# Altium schematic symbol library mfmc_components.SchLib: 184 symbols (part 1 of 2)
Pins are listed as number, name and electrical type; pins without a type are passive.

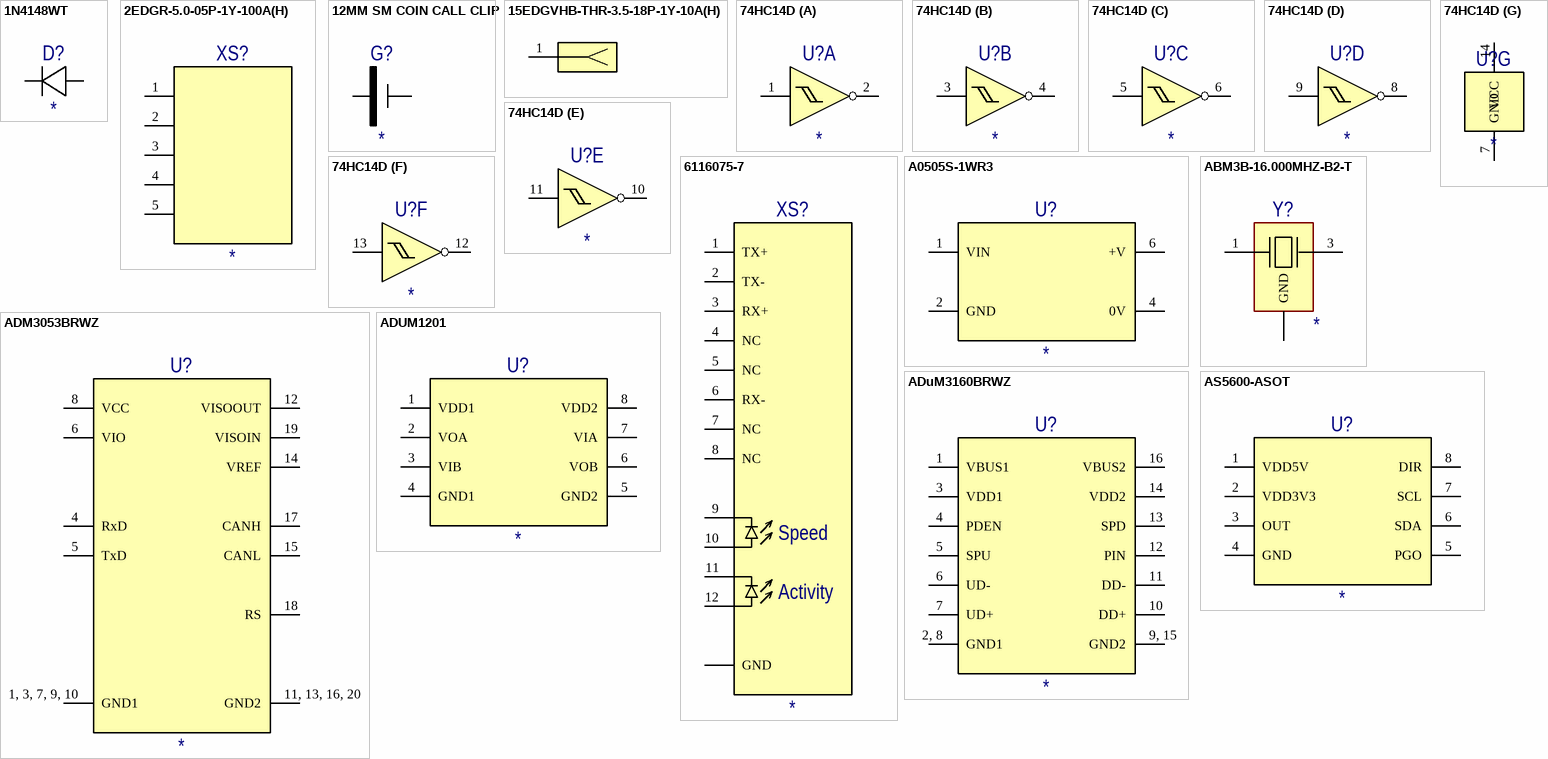
[diagram p0: symbols 1N4148WT to AS5600-ASOT]

## 1N4148WT
designator D?
Silicon Epitaxial Planar Switching Diode; Manufacturer: GUANGDONG SHIKUES MICRO INDUSTRIAL CO., LTD
footprint SOD-523F (Small Outline Diode FLAT NARROW LEADS)
pins: 1, 2

## 2EDGR-5.0-05P-1Y-100A(H)
designator XS?
Reverse mount chip LED; Manufacturer: LITE-ON ELECTRONICS, INC.
footprint 2EDGR-5.0-05P-1Y-100AH (Pluggable Terminal Blocks PCB Socket)
pins: 1, 2, 3, 4, 5

## 12MM SM COIN CALL CLIP
designator G?
footprint 12MM SM COIN CALL CLIP
pins: 1, 2

## 15EDGVHB-THR-3.5-18P-1Y-10A(H)
designator XS?  (value not drawn)
Pluggable Terminal Blocksnominal current 8A. Rated voltage(Ⅱ/2): 250V, pitch: 3.5mm, Color: black, Contact surface: Tin; Manufacturer: NINGBO DEGSON ELECTRICAL CO.,LTD.
footprint 15EDGVHB-THR-3.5-18P (2-rows PCB Socket 3.5mm pitch 8A)
pins: 1
1 alternate drawing of the same symbol

## 74HC14D
designator U?
The LM321A/358A/324A series amplifiers are newest high supply voltage amplifiers with low offset, low power and stable frequency response. They incorporate 3PEAK’s proprietary and patented design techniques to achieve very good AC performance with 0.9MHz bandwidth, 0.5V/μs slew rate and maximum 3mV offset while drawing only 100μA of quiescent current per amplifier. The input common-mode voltage range extends to V–, and the outputs swing rail-to-rail. The LM321A/358A/324A family can be used as plug-in / replacements for many commercially available op-amps to reduce power and improve input/output range and performance. The combination of features makes the LM321A/358A/324A ideal choices for power module, industrial control, motor control and audio application.; Manufacturer: Toshiba Corporation
footprint 14-SOIC-E3900-D8700-A1750-H6000-B400-e1270
part A pins: 1 1A, 2 1Y
part B pins: 3 2A, 4 2Y
part C pins: 5 3A, 6 3Y
part D pins: 8 4Y, 9 4A
part E pins: 10 5Y, 11 5A
part F pins: 12 6Y, 13 6A
part G pins: 7 GND, 14 VCC

## 6116075-7
designator XS?
Modular Jack, Right Angle, Low Profile, Inverted, Shielded, No Panel Grounding Tabs, 8/8
footprint 6116075-7 (RJ45 Connectors, RJ45, Single Port, 1 x 1, RJ Type Jacks & Plugs, Standard Connector Contact Density, Jack, Shielded, Cat 5, Inverted - Latch Up); pin to pad SH1, SH2, PH1, PH2>SH1+SH2+PH1+PH2
pins: 1 TX+, 2 TX-, 3 RX+, 4 NC, 5 NC, 6 RX-, 7 NC, 8 NC, 9, 10, 11, 12, SH1, SH2, PH1, PH2 GND
text: Speed; Activity

## A0505S-1WR3
designator U?
footprint MORNSUN-A05_S-1WR3
pins: 1 VIN, 2 GND, 4 0V, 6 +V

## ABM3B-16.000MHZ-B2-T
designator Y?
16 MHz Â±20ppm Crystal 18pF 50 Ohms 4-SMD, No Lead
footprint XTAL_ABM3B-16.000MHZ-B2-T; pin to pad 2>2+4
footprint F5032A; pin to pad 2,4>2+4
pins: 1, 2,4 GND (power), 3

## ADM3053BRWZ
designator U?
footprint 20-SOIC_W-E7600-D13000-A2650-H10650-B500-e1270 (SOIC, 20-Leads, Body 12,80x7,50mm, Pitch 1,27mm, IPC Medium Density); pin to pad 1,3,7,9,10>1+3+7+9+10 11,13,16,20>11+13+16+20
pins: 1, 3, 7, 9, 10 GND1, 4 RxD, 5 TxD, 6 VIO, 8 VCC, 11, 13, 16, 20 GND2, 12 VISOOUT, 14 VREF, 15 CANL, 17 CANH, 18 RS, 19 VISOIN

## ADUM1201
designator U?
footprint 8-SOIC (SOIC, 8-Leads, Body 4,91x3,90mm, Pitch 1,27mm, IPC Medium Density)
pins: 1 VDD1, 2 VOA, 3 VIB, 4 GND1, 5 GND2, 6 VOB, 7 VIA, 8 VDD2

## ADuM3160BRWZ
designator U?
footprint 16-SOIC-E7500-D10300-A2560-H10300-B400-e1270 (SOIC, 16-Leads, Body 10,30x7,50mm, Pitch 1,27mm, IPC Medium Density); pin to pad 2, 8>2+8 9, 15>9+15
pins: 1 VBUS1, 2, 8 GND1, 3 VDD1, 4 PDEN, 5 SPU, 6 UD-, 7 UD+, 9, 15 GND2, 10 DD+, 11 DD-, 12 PIN, 13 SPD, 14 VDD2, 16 VBUS2

## AS5600-ASOT
designator U?
footprint 8-SOIC (SOIC, 8-Leads, Body 4,91x3,90mm, Pitch 1,27mm, IPC Medium Density)
pins: 1 VDD5V, 2 VDD3V3, 3 OUT, 4 GND, 5 PGO, 6 SDA, 7 SCL, 8 DIR

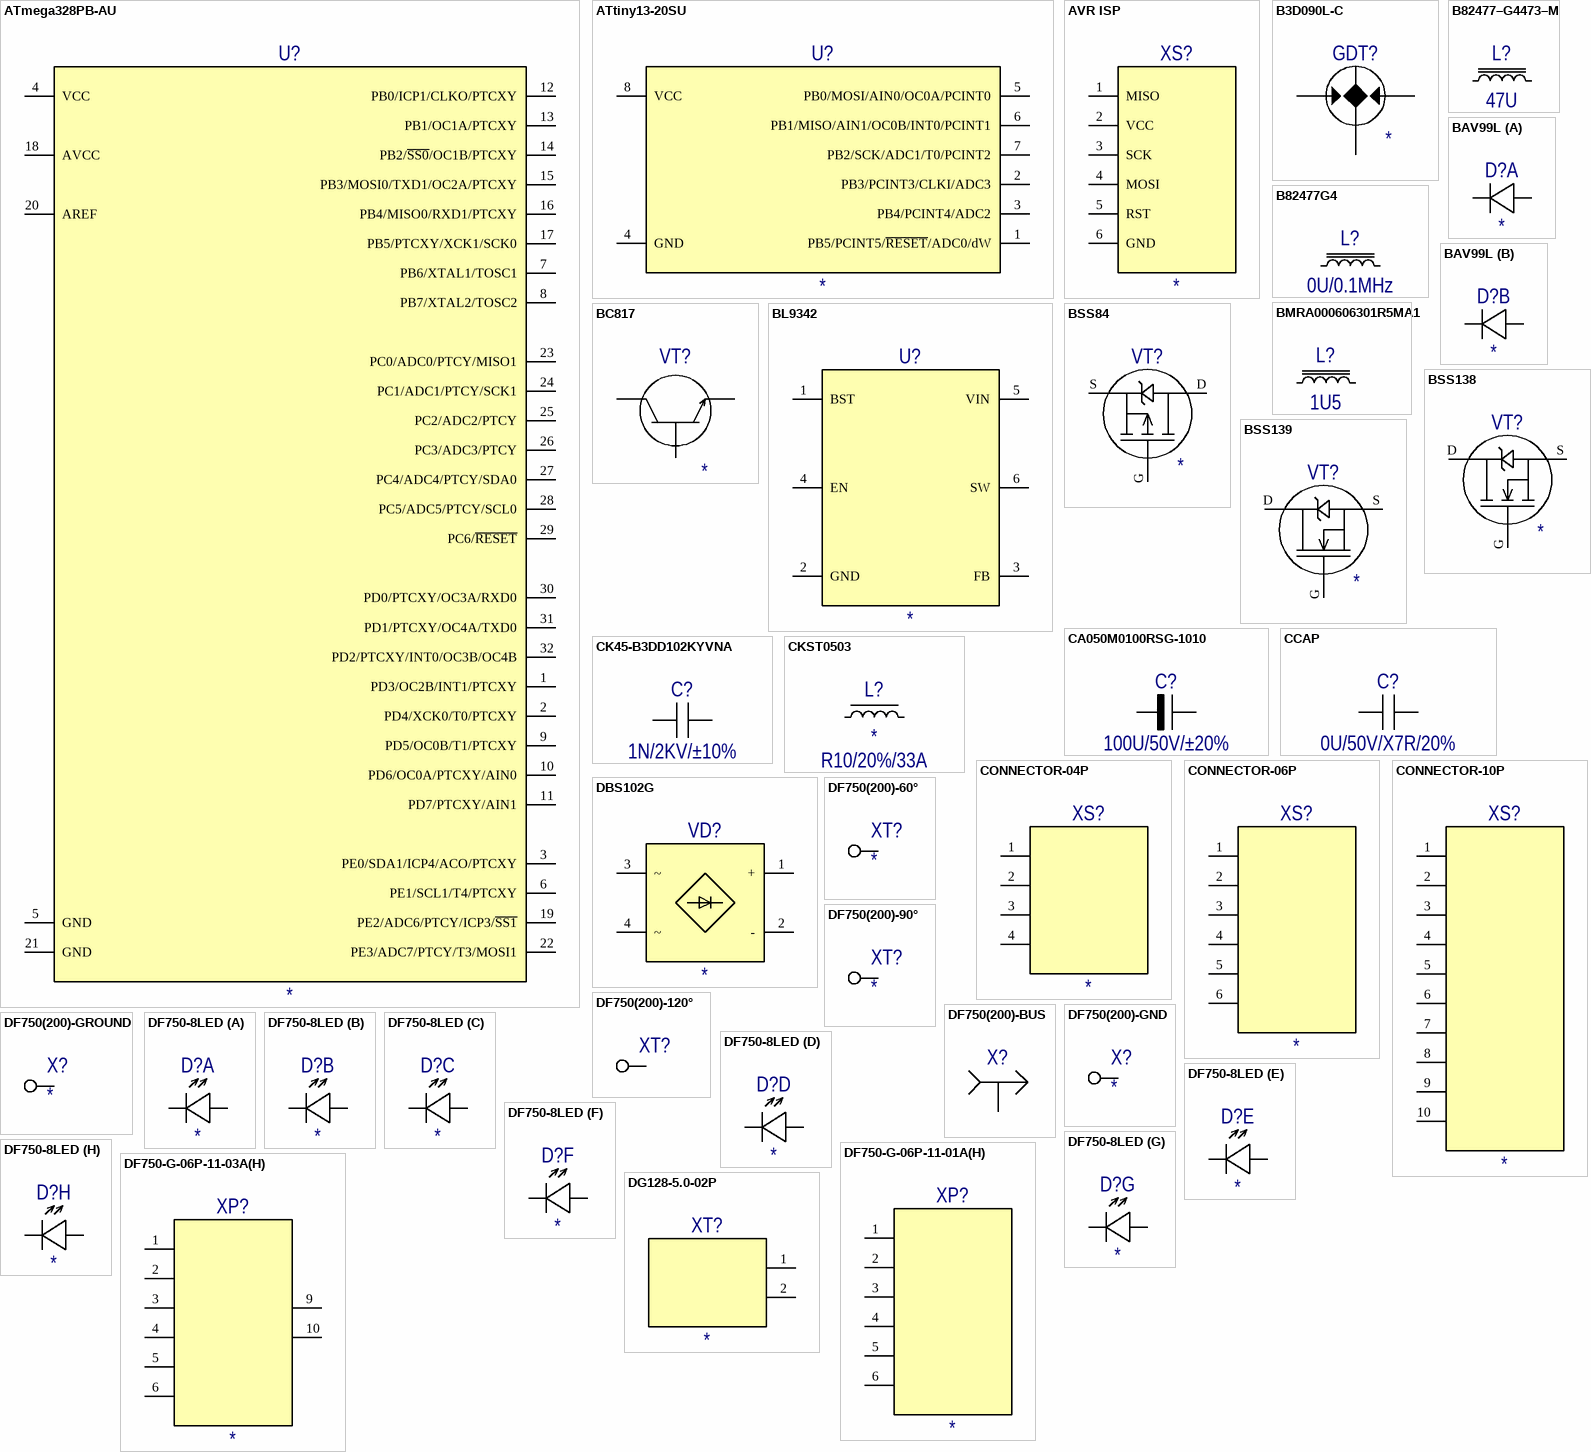
[diagram p1: symbols ATmega328PB-AU to DG128-5.0-02P]

## ATmega328PB-AU
designator U?
footprint 32-TQFP-E7000-D7000-A1200-H9000-B300-e800 (TQFP, 32-Leads, Body 7,00x7,00mm, Pitch 0,80mm, IPC Medium Density)
pins: 1 PD3/OC2B/INT1/PTCXY, 2 PD4/XCK0/T0/PTCXY, 3 PE0/SDA1/ICP4/ACO/PTCXY, 4 VCC, 5 GND, 6 PE1/SCL1/T4/PTCXY, 7 PB6/XTAL1/TOSC1, 8 PB7/XTAL2/TOSC2, 9 PD5/OC0B/T1/PTCXY, 10 PD6/OC0A/PTCXY/AIN0, 11 PD7/PTCXY/AIN1, 12 PB0/ICP1/CLKO/PTCXY, 13 PB1/OC1A/PTCXY, 14 PB2/~{SS0}/OC1B/PTCXY, 15 PB3/MOSI0/TXD1/OC2A/PTCXY, 16 PB4/MISO0/RXD1/PTCXY, 17 PB5/PTCXY/XCK1/SCK0, 18 AVCC, 19 PE2/ADC6/PTCY/ICP3/~{SS1}, 20 AREF, 21 GND, 22 PE3/ADC7/PTCY/T3/MOSI1, 23 PC0/ADC0/PTCY/MISO1, 24 PC1/ADC1/PTCY/SCK1, 25 PC2/ADC2/PTCY, 26 PC3/ADC3/PTCY, 27 PC4/ADC4/PTCY/SDA0, 28 PC5/ADC5/PTCY/SCL0, 29 PC6/~{RESET}, 30 PD0/PTCXY/OC3A/RXD0, 31 PD1/PTCXY/OC4A/TXD0, 32 PD2/PTCXY/INT0/OC3B/OC4B

## ATtiny13-20SU
designator U?
8-bit Microcontroller with 1K Bytes In-System Programmable Flash
footprint 8-SOIC (SOIC, 8-Leads, Body 4,91x3,90mm, Pitch 1,27mm, IPC Medium Density)
pins: 1 PB5/PCINT5/~{RESET}/ADC0/dW, 2 PB3/PCINT3/CLKI/ADC3, 3 PB4/PCINT4/ADC2, 4 GND, 5 PB0/MOSI/AIN0/OC0A/PCINT0, 6 PB1/MISO/AIN1/OC0B/INT0/PCINT1, 7 PB2/SCK/ADC1/T0/PCINT2, 8 VCC

## AVR ISP
designator XS?
footprint DS1013-06SSiB1 (2.54mm Box Header V/T,R/A & SMT Type)
pins: 1 MISO, 2 VCC, 3 SCK, 4 MOSI, 5 RST, 6 GND

## B3D090L-C
designator GDT?
footprint B3D090L-C
pins: 1, 2, 3

## B82477G4
designator L?  value 0U/0.1MHz  (hidden comment: B82477G4)
Inductance: 0U; Frequence: 0.1M
footprint B82477G4
pins: 1, 2

## B82477–G4473–M
designator L?, comment value 47U  (hidden comment: B82477G4)
footprint B82477G4
pins: 1, 2

## BAV99L
designator D?
Single high-speed switching diodes, fabricated in planar technology, and encapsulated in small hermetically sealed glass SOD80C Surface-Mounted Device (SMD) packages.; Manufacturer: Semiconductor Components Industries, LLC
footprint 3-SOT23 (SOT23, 3-Leads, Body 2,90x2,37mm, Pitch 0,95mm, IPC Medium Density)
footprint 3-SOT23 - OVERLAY (SOT23, 3-Leads, Body 2,90x2,37mm, Pitch 0,95mm, IPC Medium Density)
part A pins: 1, 3
part B pins: 2, 3

## BC817
designator VT?
Bipolar NPN Transistor; Manufacturer: Yangzhou Yangjie Electronic Technology Co., Ltd.
footprint 3-SOT23 (SOT23, 3-Leads, Body 2,90x2,37mm, Pitch 0,95mm, IPC Medium Density); pin to pad B>1 C>3 E>2
pins: B, C С, E

## BL9342
designator U?
Manufacturer: Shanghai Belling Corp., Ltd.
footprint 6-SOT23-OVERLAY (SOT23, 6-Leads, Body 2,90x2,37mm, Pitch 0,95mm, IPC Medium Density)
footprint 6-SOT23 (SOT23, 6-Leads, Body 2,90x2,37mm, Pitch 0,95mm, IPC Medium Density)
pins: 1 BST, 2 GND, 3 FB, 4 EN, 5 VIN, 6 SW

## BMRA000606301R5MA1
designator L?  value 1U5  (hidden comment: *)
Molding Power Inductors – BMRx Series
footprint 2-INDUCTOR-E6600-D6600-A3000-B3000
pins: 1, 2

## BSS84
designator VT?
P-channel Power MOSFET; Manufacturer: Yangzhou Yangjie Electronic Technology Co., Ltd.
footprint 3-SOT23 (SOT23, 3-Leads, Body 2,90x2,37mm, Pitch 0,95mm, IPC Medium Density); pin to pad D>3 G>1 S>2
pins: D, G, S

## BSS138
designator VT?
footprint 3-SOT23 (SOT23, 3-Leads, Body 2,90x2,37mm, Pitch 0,95mm, IPC Medium Density); pin to pad D>3 G>1 S>2
footprint 3-SOT23 - OVERLAY (SOT23, 3-Leads, Body 2,90x2,37mm, Pitch 0,95mm, IPC Medium Density); pin to pad D>3 G>1 S>2
pins: D, G, S

## BSS139
designator VT?
N-Chanel FET-Transistor Deplete mode
footprint 3-SOT23 (SOT23, 3-Leads, Body 2,90x2,37mm, Pitch 0,95mm, IPC Medium Density); pin to pad D>3 G>1 S>2
pins: D, G, S

## CA050M0100RSG-1010
designator C?  value 100U/50V/±20%  (hidden comment: *)
Electrolitic Capacitor SMD
footprint ACAP1010(G) (Aluminum Electrolytic Capacitor, Body 10,30x10,30x10,50mm, IPC Low Density)
pins: 1, 2

## CCAP
designator C?  value 0U/50V/X7R/20%  (hidden comment: *)
Ceramic Capacitor SMD 0805; Capacity: 0U; Accuracy: 20%; Dielectric: X7R; Voltage: 50V
footprint CCAP0805 (Chip Capacitor, 2-Leads, Body 2,00x1,25mm, IPC Medium Density)
footprint CCAP1206 (Chip Capacitor, 2-Leads, Body 3,20x1,60mm, IPC Medium Density)
footprint CCAP1210 (Chip Capacitor, 2-Leads, Body 3,20x2,50mm, IPC Medium Density)
pins: 1, 2

## CK45-B3DD102KYVNA
designator C?  value 1N/2KV/±10%  (hidden comment: *)
High Voltage Ceramic Capacitors
footprint TDK-CK45-D7500-T5000-F5000-L-H0
pins: 1, 2

## CKST0503
designator L?  value R10/20%/33A
Inductance: R10; Tolerance: 20%; Resistance: R3; Current: 33A
footprint IND0503
pins: 1, 2

## CONNECTOR-04P
designator XS?
footprint DS1021-1X04SF11-B (2.54mm Pin Header V/T Type)
pins: 1, 2, 3, 4

## CONNECTOR-06P
designator XS?
footprint 15EDGRC-3.5-06P-1Y-00A(H) (Pluggable Terminal Blocksnominal current7A.Rated voltage(?/2):250V,pitch:3.5mm,Color:green,Contact surface:Tin)
pins: 1, 2, 3, 4, 5, 6

## CONNECTOR-10P
designator XS?
footprint DS1021-1X10SF11-B (2.54mm Pin Header V/T Type)
pins: 1, 2, 3, 4, 5, 6, 7, 8, 9, 10

## DBS102G
designator VD?
Single Phase 1.0 AMP. Glass Passivated Bridge Rectifiers
footprint 4-DBS-E6500-D8500-A3600-H10300-B1200-e5200
pins: 1 +, 2 -, 3 ~, 4 ~

## DF750(200)-60°
designator XT?
Degson Left spring contact 60°
footprint PAD12X02 (Pad -Hole = 1.2mm -Annular Ring = 0.2mm)
footprint PAD12X05 (Pad -Hole = 1.2mm -Annular Ring = 0.5mm)
pins: 1

## DF750(200)-90°
designator XT?
Degson Right spring contact 90°
footprint PAD12X02 (Pad -Hole = 1.2mm -Annular Ring = 0.2mm)
footprint PAD12X05 (Pad -Hole = 1.2mm -Annular Ring = 0.5mm)
pins: 1

## DF750(200)-120°
designator XT?  (value not drawn)
Degson Right spring contact 120°
footprint PAD12X02 (Pad -Hole = 1.2mm -Annular Ring = 0.2mm)
footprint PAD12X05 (Pad -Hole = 1.2mm -Annular Ring = 0.5mm)
pins: 1

## DF750(200)-BUS
designator X?  (value not drawn)
Degson Knife contact
footprint PAD12X02 (Pad -Hole = 1.2mm -Annular Ring = 0.2mm)
footprint PAD12X05 (Pad -Hole = 1.2mm -Annular Ring = 0.5mm)
pins: 1

## DF750(200)-GND
designator X?
Degson Ground contact
footprint PAD12X02 (Pad -Hole = 1.2mm -Annular Ring = 0.2mm)
pins: 1

## DF750(200)-GROUND
designator X?
Degson Ground contact
footprint DF750-02P-10X02 (Connector ground); pin to pad 1>1+2
footprint DF750-02P-12X05 (Connector ground); pin to pad 1>1+2
pins: 1

## DF750-8LED
designator D?
footprint DF750-8LED
part A pins: 1, 2
part B pins: 3, 4
part C pins: 5, 6
part D pins: 7, 8
part E pins: 9, 10
part F pins: 11, 12
part G pins: 13, 14
part H pins: 15, 16

## DF750-G-06P-11-01A(H)
designator XP?
footprint DF750-G-06P-11-2003A(H) (Connector All Breackover)
pins: 1, 2, 3, 4, 5, 6

## DF750-G-06P-11-03A(H)
designator XP?
footprint DF750-G-06P-11-2001A(H) (Connector All Disconnected)
pins: 1, 2, 3, 4, 5, 6, 9, 10

## DG128-5.0-02P
designator XT?
System: Connector
footprint DG128-5.0-02P
pins: 1, 2

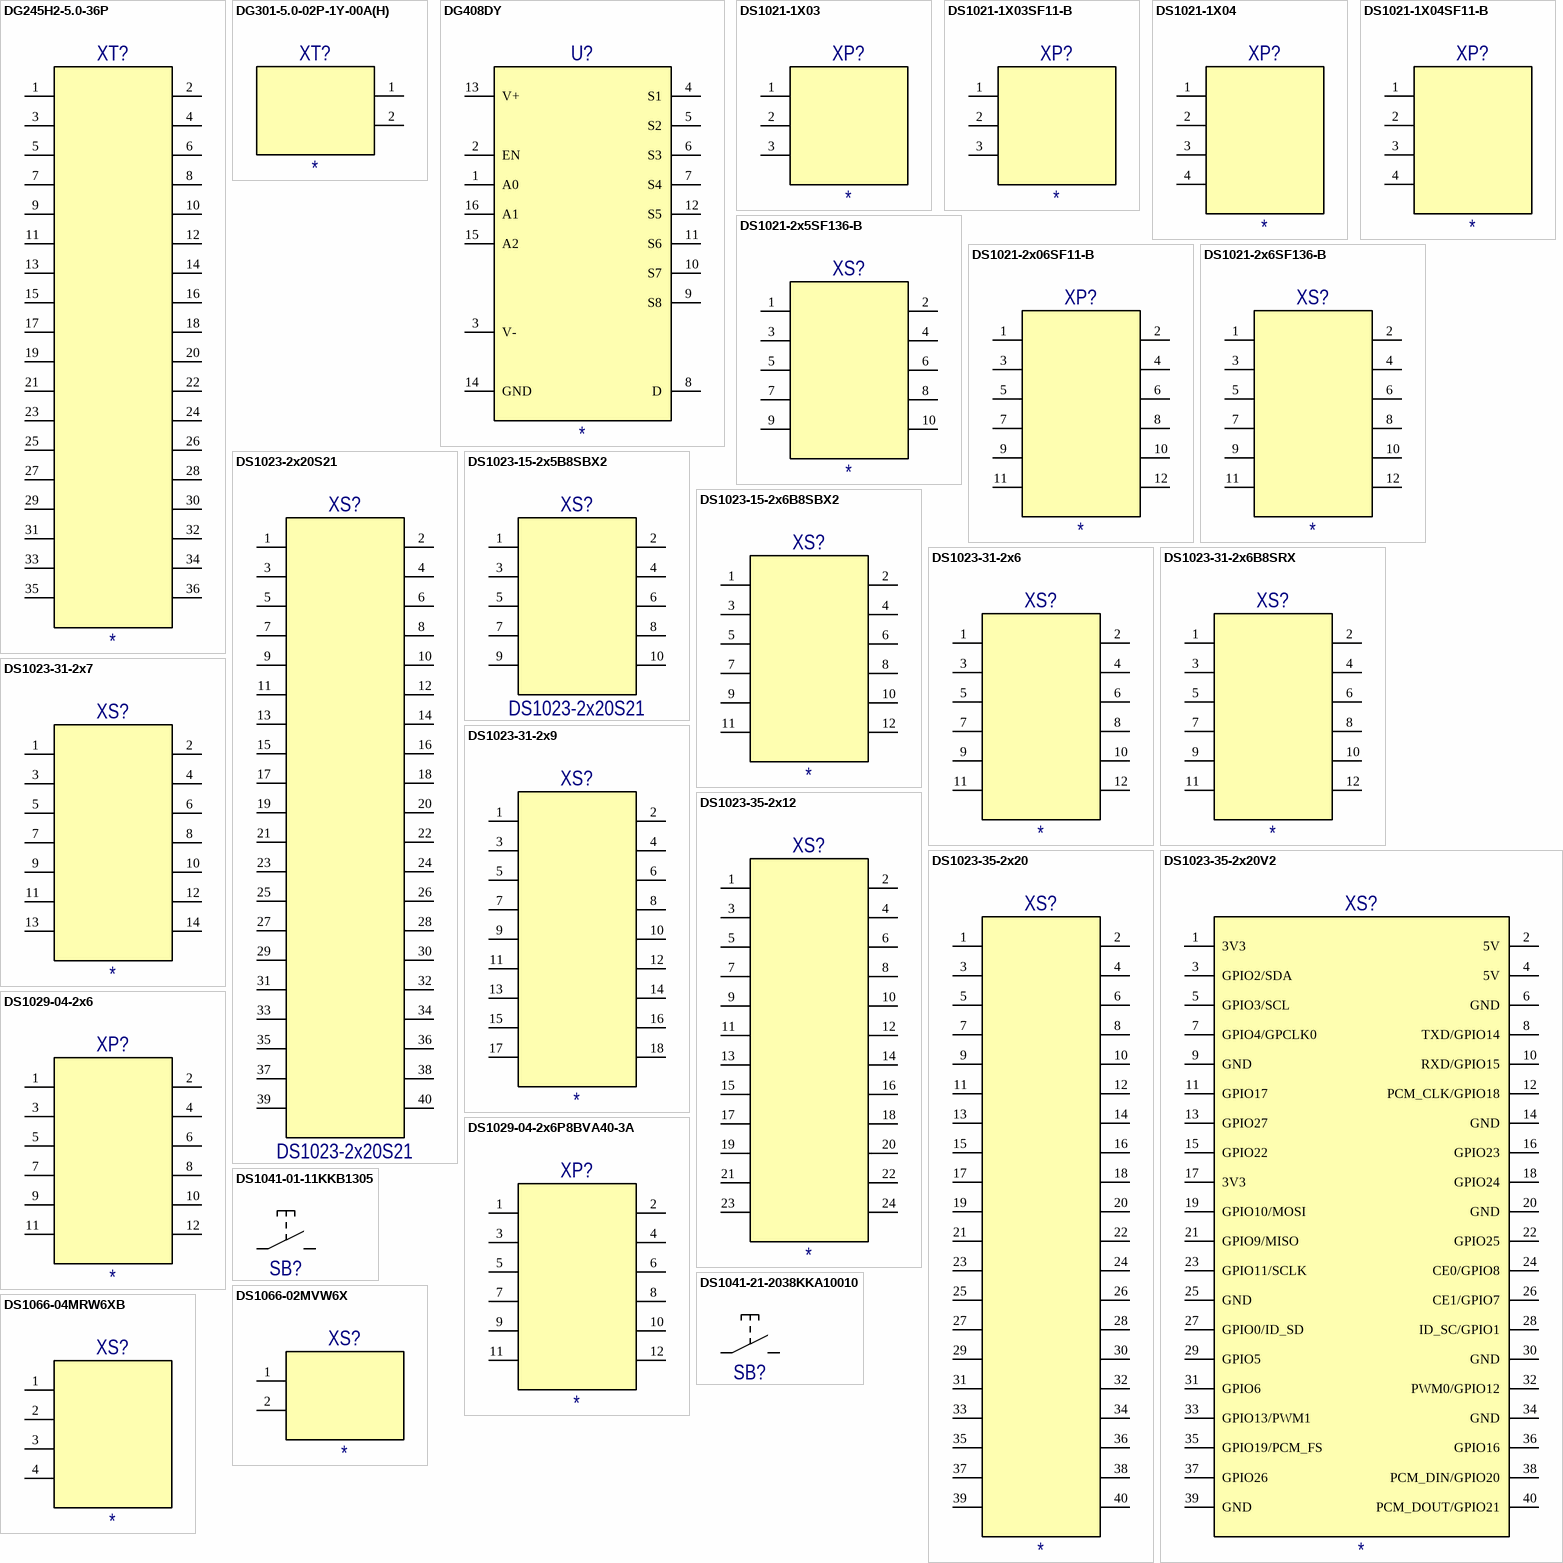
[diagram p2: symbols DG245H2-5.0-36P to DS1066-04MRW6XB]

## DG245H2-5.0-36P
designator XT?
System: Connector
footprint DG245H2-5.0-36P
pins: 1, 2, 3, 4, 5, 6, 7, 8, 9, 10, 11, 12, 13, 14, 15, 16, 17, 18, 19, 20, 21, 22, 23, 24, 25, 26, 27, 28, 29, 30, 31, 32, 33, 34, 35, 36

## DG301-5.0-02P-1Y-00A(H)
designator XT?
System: Connector
footprint DG301-5.0-02P
pins: 1, 2

## DG408DY
designator U?
footprint 16-PDIP_TO_SMT
pins: 1 A0, 2 EN, 3 V-, 4 S1, 5 S2, 6 S3, 7 S4, 8 D, 9 S8, 10 S7, 11 S6, 12 S5, 13 V+, 14 GND, 15 A2, 16 A1

## DS1021-1X03
designator XP?
Manufacturer: CONNFLY ELECTRONIC CO.,LTD.
footprint DS1021-1X03SF11-B (2.54mm Pin Header V/T Type)
pins: 1, 2, 3

## DS1021-1X03SF11-B
designator XP?
Manufacturer: CONNFLY ELECTRONIC CO.,LTD.
footprint DS1021-1X03SF11-B (2.54mm Pin Header V/T Type)
pins: 1, 2, 3

## DS1021-1X04
designator XP?
Manufacturer: CONNFLY ELECTRONIC CO.,LTD.
footprint DS1021-1X04SF11-B (2.54mm Pin Header V/T Type)
pins: 1, 2, 3, 4

## DS1021-1X04SF11-B
designator XP?
2.54 Pin Header V/T Type Single Row; Manufacturer: CONNFLY ELECTRONIC CO.,LTD.
footprint DS1021-1X04SF11-B - OVERLAY (2.54mm Pin Header V/T Type)
footprint DS1021-1X04SF11-B (2.54mm Pin Header V/T Type)
pins: 1, 2, 3, 4

## DS1021-2x5SF136-B
designator XS?
Manufacturer: CONNFLY ELECTRONIC CO.,LTD.
footprint DS1021-2x5SF136-B (2.54 Pin Header V/T Type Double Row)
pins: 1, 2, 3, 4, 5, 6, 7, 8, 9, 10

## DS1021-2x06SF11-B
designator XP?
Manufacturer: CONNFLY ELECTRONIC CO.,LTD.; System: Connector
footprint DS1021-2x06SF11-B (2.54mm Pin Header V/T Type Double Rows)
footprint DS1021-2x06SF11-B - Edge PCB (2.54mm Pin Header V/T Type Double Rows)
pins: 1, 2, 3, 4, 5, 6, 7, 8, 9, 10, 11, 12

## DS1021-2x6SF136-B
designator XS?
2.54 Pin Header V/T Type Double Row; Manufacturer: CONNFLY ELECTRONIC CO.,LTD.
footprint DS1021-2x6SF136-B (2.54 Pin Header V/T Type Double Row)
pins: 1, 2, 3, 4, 5, 6, 7, 8, 9, 10, 11, 12

## DS1023-2x20S21
designator XS?
Manufacturer: CONNFLY ELECTRONIC CO.,LTD.; System: Connector
footprint DS1023-2x20S21
pins: 1, 2, 3, 4, 5, 6, 7, 8, 9, 10, 11, 12, 13, 14, 15, 16, 17, 18, 19, 20, 21, 22, 23, 24, 25, 26, 27, 28, 29, 30, 31, 32, 33, 34, 35, 36, 37, 38, 39, 40

## DS1023-15-2x5B8SBX2
designator XS?, comment DS1023-2x20S21
Manufacturer: CONNFLY ELECTRONIC CO.,LTD.; System: Connector
footprint DS1023-15-2x5B8SBX2 (Female header pitch 2.54mm SMT Type H=5.0)
pins: 1, 2, 3, 4, 5, 6, 7, 8, 9, 10

## DS1023-15-2x6B8SBX2
designator XS?
FEMALE HEADER PITCH 2.54mm SMT TYPE H=8.5/5.0/5.7mm; Manufacturer: CONNFLY ELECTRONIC CO.,LTD.; System: Connector
footprint DS1023-15-2x6B8SBX2 (Female header pitch 2.54mm SMT Type H=5.0)
pins: 1, 2, 3, 4, 5, 6, 7, 8, 9, 10, 11, 12

## DS1023-31-2x6
designator XS?
Manufacturer: CONNFLY ELECTRONIC CO.,LTD.; System: Connector
footprint DS1023-31-2x6B8SRX
pins: 1, 2, 3, 4, 5, 6, 7, 8, 9, 10, 11, 12

## DS1023-31-2x6B8SRX
designator XS?
Manufacturer: CONNFLY ELECTRONIC CO.,LTD.; System: Connector
footprint DS1023-31-2x6B8SRX
pins: 1, 2, 3, 4, 5, 6, 7, 8, 9, 10, 11, 12

## DS1023-31-2x7
designator XS?
Manufacturer: CONNFLY ELECTRONIC CO.,LTD.; System: Connector
footprint DS1023-31-2x7B8SRX
pins: 1, 2, 3, 4, 5, 6, 7, 8, 9, 10, 11, 12, 13, 14

## DS1023-31-2x9
designator XS?
Manufacturer: CONNFLY ELECTRONIC CO.,LTD.; System: Connector
footprint DS1023-31-2x9B8SRX
pins: 1, 2, 3, 4, 5, 6, 7, 8, 9, 10, 11, 12, 13, 14, 15, 16, 17, 18

## DS1023-35-2x12
designator XS?
Manufacturer: CONNFLY ELECTRONIC CO.,LTD.; System: Connector
footprint DS1023-35-2x12
pins: 1, 2, 3, 4, 5, 6, 7, 8, 9, 10, 11, 12, 13, 14, 15, 16, 17, 18, 19, 20, 21, 22, 23, 24

## DS1023-35-2x20
designator XS?
Manufacturer: CONNFLY ELECTRONIC CO.,LTD.; System: Connector
footprint DS1023-35-2x20
pins: 1, 2, 3, 4, 5, 6, 7, 8, 9, 10, 11, 12, 13, 14, 15, 16, 17, 18, 19, 20, 21, 22, 23, 24, 25, 26, 27, 28, 29, 30, 31, 32, 33, 34, 35, 36, 37, 38, 39, 40

## DS1023-35-2x20V2
designator XS?
Manufacturer: CONNFLY ELECTRONIC CO.,LTD.; System: Connector
footprint DS1023-35-2x20
pins: 1 3V3, 2 5V, 3 GPIO2/SDA, 4 5V, 5 GPIO3/SCL, 6 GND, 7 GPIO4/GPCLK0, 8 TXD/GPIO14, 9 GND, 10 RXD/GPIO15, 11 GPIO17, 12 PCM_CLK/GPIO18, 13 GPIO27, 14 GND, 15 GPIO22, 16 GPIO23, 17 3V3, 18 GPIO24, 19 GPIO10/MOSI, 20 GND, 21 GPIO9/MISO, 22 GPIO25, 23 GPIO11/SCLK, 24 CE0/GPIO8, 25 GND, 26 CE1/GPIO7, 27 GPIO0/ID_SD, 28 ID_SC/GPIO1, 29 GPIO5, 30 GND, 31 GPIO6, 32 PWM0/GPIO12, 33 GPIO13/PWM1, 34 GND, 35 GPIO19/PCM_FS, 36 GPIO16, 37 GPIO26, 38 PCM_DIN/GPIO20, 39 GND, 40 PCM_DOUT/GPIO21

## DS1029-04-2x6
designator XP?
Manufacturer: CONNFLY ELECTRONIC CO.,LTD.; System: Connector
footprint DS1029-04-2x6P8BVA40-B
pins: 1, 2, 3, 4, 5, 6, 7, 8, 9, 10, 11, 12

## DS1029-04-2x6P8BVA40-3A
designator XP?
Manufacturer: CONNFLY ELECTRONIC CO.,LTD.; System: Connector
footprint DS1029-04-2x6P8BVA40-B
pins: 1, 2, 3, 4, 5, 6, 7, 8, 9, 10, 11, 12

## DS1041-01-11KKB1305
designator SB?  (value not drawn)
SMD Film resistor; Manufacturer: CONNFLY ELECTRONIC CO.,LTD.; Resistance: 0R; Accuracy: 1%
footprint DS1041-01-11KKB1305 (Tact switch DIP type 6x6mm); pin to pad 1>1+2 2>3+4
pins: 1, 2

## DS1041-21-2038KKA10010
designator SB?  (value not drawn)
6.1x6.1mm Tact Switch R/A 2 Position Type; Manufacturer: CONNFLY ELECTRONIC CO.,LTD.
footprint DS1041-21-2038KKA10010 (6.1x6.1mm Tact Switch R/A 2 Position Type)
pins: 1, 2

## DS1066-02MVW6X
designator XS?
Manufacturer: CONNFLY ELECTRONIC CO.,LTD.
footprint DS1066-02MVW6X (PCB Connector 2.5mm XH Type)
pins: 1, 2

## DS1066-04MRW6XB
designator XS?
Manufacturer: CONNFLY ELECTRONIC CO.,LTD.
footprint DS1066-04MRW6XB (PCB Connector 2.5mm PH Type)
pins: 1, 2, 3, 4

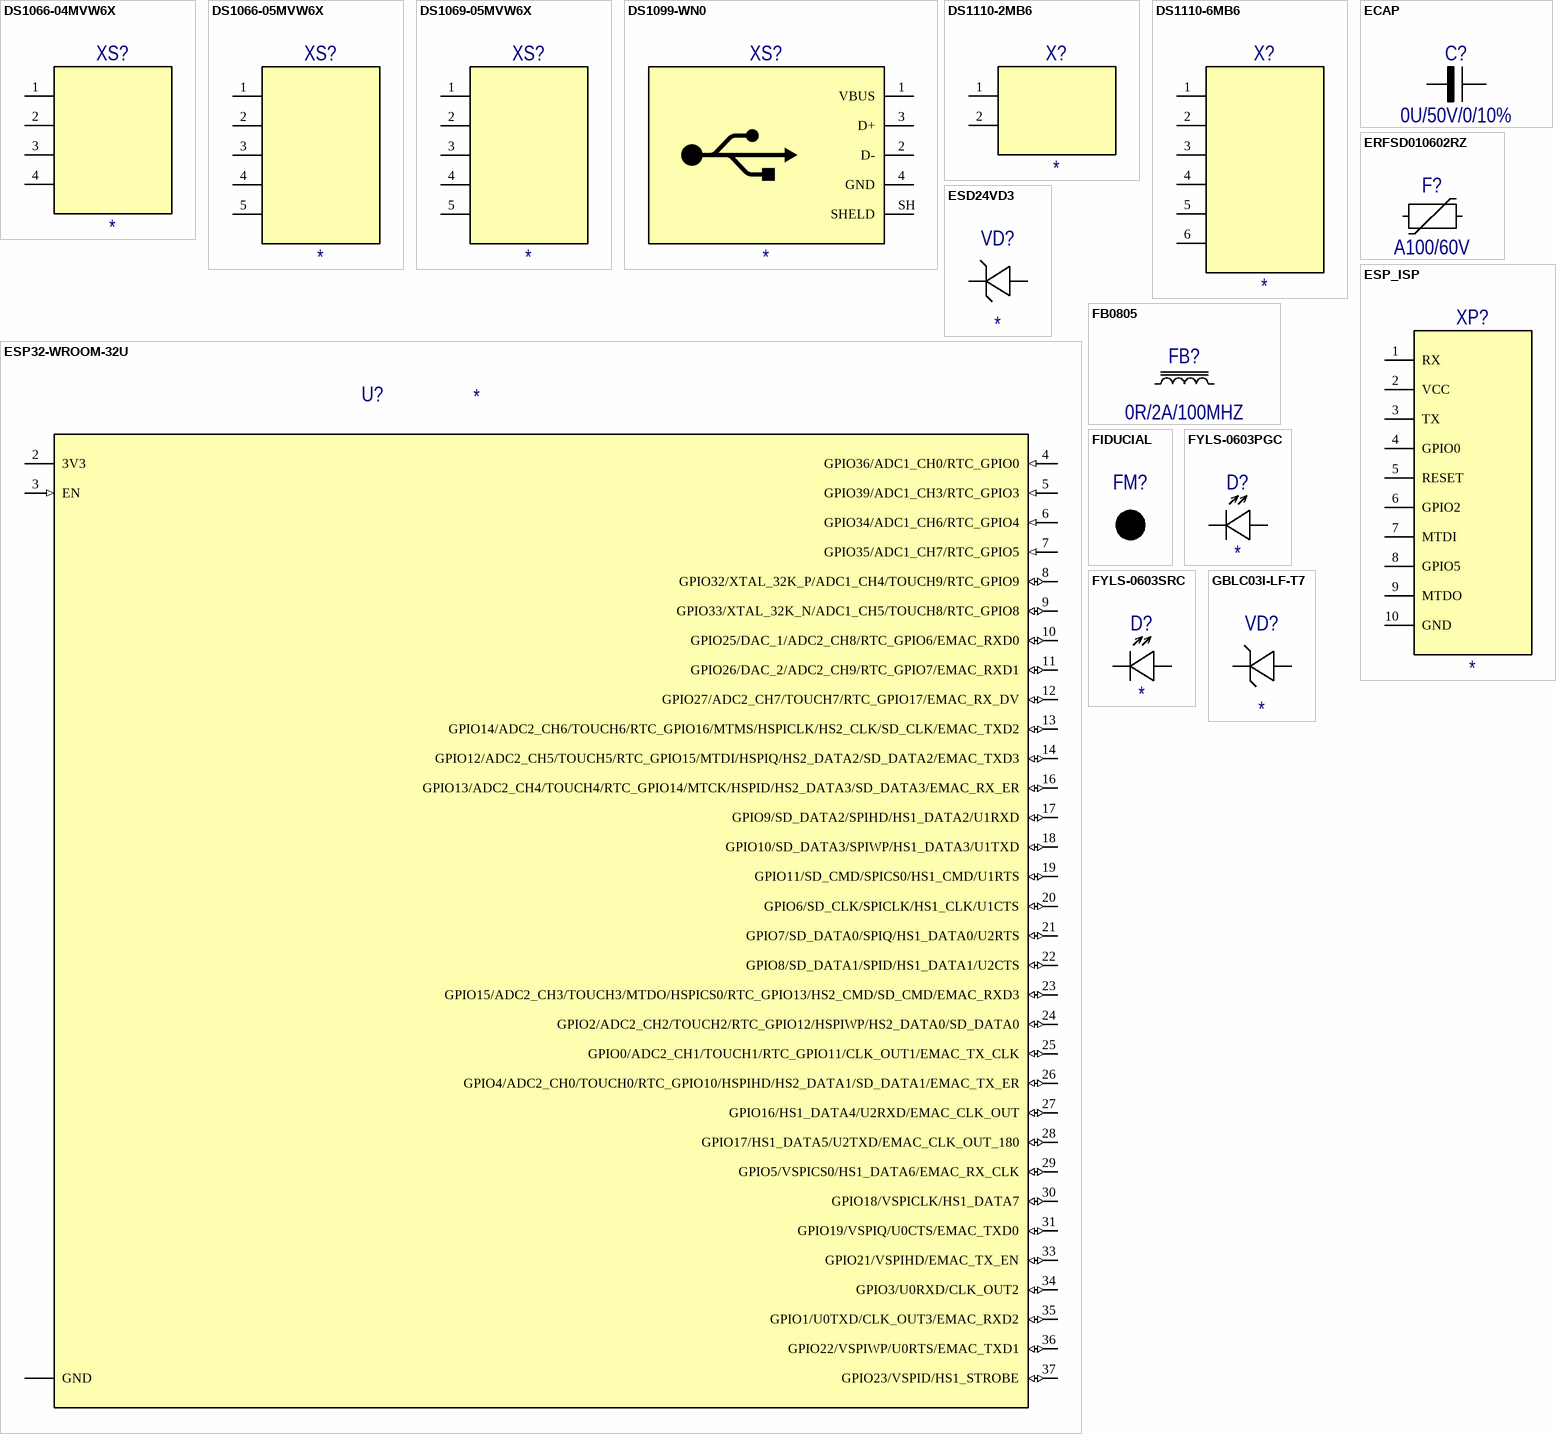
[diagram p3: symbols DS1066-04MVW6X to GBLC03I-LF-T7]

## DS1066-04MVW6X
designator XS?
Manufacturer: CONNFLY ELECTRONIC CO.,LTD.
footprint DS1066-04MVW6X (PCB Connector 2.5mm XH Type)
pins: 1, 2, 3, 4

## DS1066-05MVW6X
designator XS?
Manufacturer: CONNFLY ELECTRONIC CO.,LTD.
footprint DS1066-05MVWXX (PCB Connector 2.5mm XH Type)
pins: 1, 2, 3, 4, 5

## DS1069-05MVW6X
designator XS?
Manufacturer: CONNFLY ELECTRONIC CO.,LTD.
footprint DS1069-05MVWX (PCB Connector 2.5mm XH Type)
pins: 1, 2, 3, 4, 5

## DS1099-WN0
designator XS?
USB Type-B R/A DIP Type Connector; Manufacturer: CONNFLY ELECTRONIC CO.,LTD.
footprint DS1099 (USB Type-B R/A DIP Type Connector)
pins: 1 VBUS, 2 D-, 3 D+, 4 GND, SH SHELD

## DS1110-2MB6
designator X?
Manufacturer: CONNFLY ELECTRONIC CO.,LTD.
footprint DS1110-2MB6(ONLY HOLES) (Micro Jack Connection DS1110 Series)
pins: 1, 2

## DS1110-6MB6
designator X?
Manufacturer: CONNFLY ELECTRONIC CO.,LTD.
footprint DS1110-6MB6(ONLY HOLES) (Micro Jack Connection DS1110 Series)
pins: 1, 2, 3, 4, 5, 6

## ECAP
designator C?  value 0U/50V/0/10%  (hidden comment: *)
Electrolitic Capacitor SMD; Capacity: 0U; Accuracy: 10%; ESR: 0; Voltage: 50V
footprint TCAP2917(E) (Molded Capacitor, 2-Leads, Body 7,30x4,30mm, IPC Medium Density)
footprint TCAP2917(D) (Molded Capacitor, 2-Leads, Body 7,30x4,30mm, IPC Medium Density)
footprint ACAP1010(G) (Aluminum Electrolytic Capacitor, Body 10,30x10,30x10,50mm, IPC Low Density)
footprint ECAP1840(L)
footprint ECAP1840(S)
footprint ECAP1840(L)H6
footprint ECAP0812(L)H6
pins: 1, 2

## ERFSD010602RZ
designator F?  value A100/60V  (hidden comment: *)
Film resistor SMD 0805
footprint SMD_FUSE_1812-E010
pins: 1, 2

## ESD24VD3
designator VD?
ESD Protection Diode; Manufacturer: Yangzhou Yangjie Electronic Technology Co., Ltd.
footprint SOD-323G (Small Outline Diode)
pins: 1, 2

## ESP32-WROOM-32U
designator U?
ESP32-WROOM-32 is a powerful, generic Wi-Fi + Bluetooth + Bluetooth LE MCU module
footprint ESP32-WROOM-32U; pin to pad 1,15,38,TP1,TP2,TP3,TP4,TP5,TP6,TP7,TP8,TP9>1+15+38+TP1+TP2+TP3+TP4+TP5+TP6+TP7+TP8+TP9
pins: 1,15,38,TP1,TP2,TP3,TP4,TP5,TP6,TP7,TP8,TP9 GND (power), 2 3V3 (power), 3 EN (in), 4 GPIO36/ADC1_CH0/RTC_GPIO0 (in), 5 GPIO39/ADC1_CH3/RTC_GPIO3 (in), 6 GPIO34/ADC1_CH6/RTC_GPIO4 (in), 7 GPIO35/ADC1_CH7/RTC_GPIO5 (in), 8 GPIO32/XTAL_32K_P/ADC1_CH4/TOUCH9/RTC_GPIO9 (io), 9 GPIO33/XTAL_32K_N/ADC1_CH5/TOUCH8/RTC_GPIO8 (io), 10 GPIO25/DAC_1/ADC2_CH8/RTC_GPIO6/EMAC_RXD0 (io), 11 GPIO26/DAC_2/ADC2_CH9/RTC_GPIO7/EMAC_RXD1 (io), 12 GPIO27/ADC2_CH7/TOUCH7/RTC_GPIO17/EMAC_RX_DV (io), 13 GPIO14/ADC2_CH6/TOUCH6/RTC_GPIO16/MTMS/HSPICLK/HS2_CLK/SD_CLK/EMAC_TXD2 (io), 14 GPIO12/ADC2_CH5/TOUCH5/RTC_GPIO15/MTDI/HSPIQ/HS2_DATA2/SD_DATA2/EMAC_TXD3 (io), 16 GPIO13/ADC2_CH4/TOUCH4/RTC_GPIO14/MTCK/HSPID/HS2_DATA3/SD_DATA3/EMAC_RX_ER (io), 17 GPIO9/SD_DATA2/SPIHD/HS1_DATA2/U1RXD (io), 18 GPIO10/SD_DATA3/SPIWP/HS1_DATA3/U1TXD (io), 19 GPIO11/SD_CMD/SPICS0/HS1_CMD/U1RTS (io), 20 GPIO6/SD_CLK/SPICLK/HS1_CLK/U1CTS (io), 21 GPIO7/SD_DATA0/SPIQ/HS1_DATA0/U2RTS (io), 22 GPIO8/SD_DATA1/SPID/HS1_DATA1/U2CTS (io), 23 GPIO15/ADC2_CH3/TOUCH3/MTDO/HSPICS0/RTC_GPIO13/HS2_CMD/SD_CMD/EMAC_RXD3 (io), 24 GPIO2/ADC2_CH2/TOUCH2/RTC_GPIO12/HSPIWP/HS2_DATA0/SD_DATA0 (io), 25 GPIO0/ADC2_CH1/TOUCH1/RTC_GPIO11/CLK_OUT1/EMAC_TX_CLK (io), 26 GPIO4/ADC2_CH0/TOUCH0/RTC_GPIO10/HSPIHD/HS2_DATA1/SD_DATA1/EMAC_TX_ER (io), 27 GPIO16/HS1_DATA4/U2RXD/EMAC_CLK_OUT (io), 28 GPIO17/HS1_DATA5/U2TXD/EMAC_CLK_OUT_180 (io), 29 GPIO5/VSPICS0/HS1_DATA6/EMAC_RX_CLK (io), 30 GPIO18/VSPICLK/HS1_DATA7 (io), 31 GPIO19/VSPIQ/U0CTS/EMAC_TXD0 (io), 33 GPIO21/VSPIHD/EMAC_TX_EN (io), 34 GPIO3/U0RXD/CLK_OUT2 (io), 35 GPIO1/U0TXD/CLK_OUT3/EMAC_RXD2 (io), 36 GPIO22/VSPIWP/U0RTS/EMAC_TXD1 (io), 37 GPIO23/VSPID/HS1_STROBE (io)

## ESP_ISP
designator XP?
Connector for programming ESP32 chip
footprint DS1013-10SSiB1 (2.54mm Box Header V/T,R/A & SMT Type)
footprint DS1021-1X10SF11-B (2.54mm Pin Header V/T Type)
pins: 1 RX, 2 VCC, 3 TX, 4 GPIO0, 5 RESET, 6 GPIO2, 7 MTDI, 8 GPIO5, 9 MTDO, 10 GND

## FB0805
designator FB?  value 0R/2A/100MHZ  (hidden comment: *)
EMI Suppression / Ferrite Bead SMD 0805; Resistance: 0R; Current: 2A; Frequence: 100MHZ
footprint CCAP0805 (Chip Capacitor, 2-Leads, Body 2,00x1,25mm, IPC Medium Density)
pins: 1, 2

## FIDUCIAL
designator FM?  (value not drawn)
footprint FIDUCIAL-P1000-S3000
footprint FIDUCIAL-P1000-S2000

## FYLS-0603PGC
designator D?
footprint SMD_LED_0603-Green
footprint SMD_LED_0603-Green - Overlay
pins: 1, 2

## FYLS-0603SRC
designator D?
footprint SMD_LED_0603-Red
footprint SMD_LED_0603-Red - Overlay
pins: 1, 2

## GBLC03I-LF-T7
designator VD?
ESD Protection Diode; Manufacturer: Youtai Semiconductor Co., Ltd.
footprint SOD-323G (Small Outline Diode)
pins: 1, 2

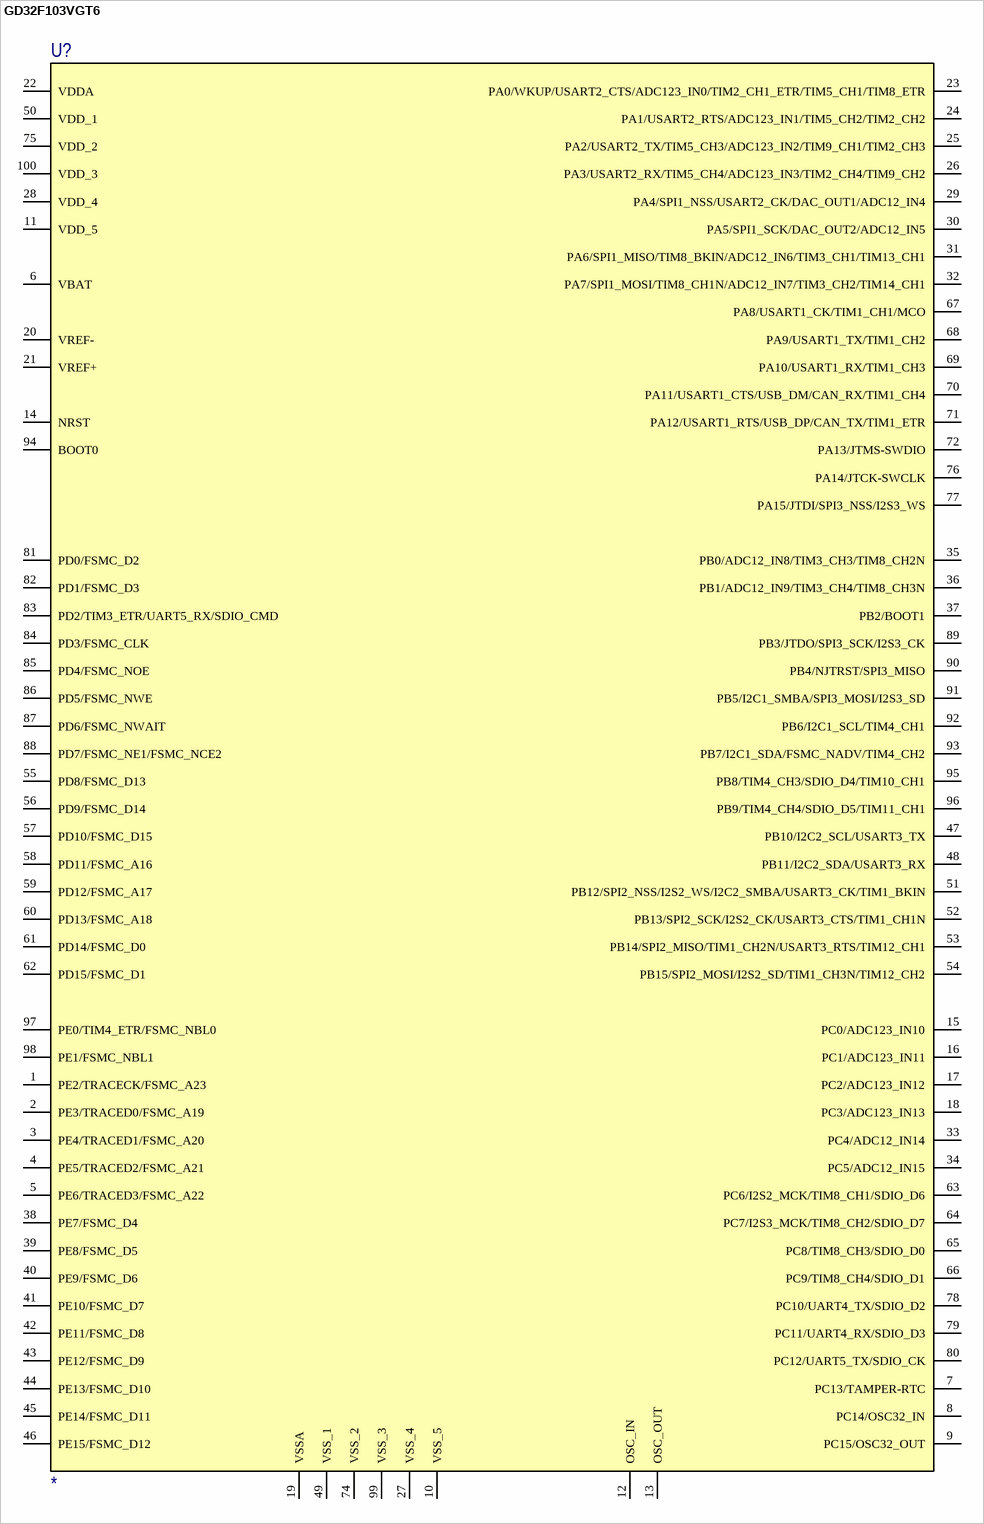
[diagram p4: symbol GD32F103VGT6]

## GD32F103VGT6
designator U?
32-bit general-purpose microcontroller based on the Arm® Cortex®-M4 RISC core; Manufacturer: GigaDevice Semiconductor Inc
footprint 100-LQFP-E14000-D14000-A1600-H16000-B260-e500 (TSQFP, 100-Leads, Body 14,00x14,00mm, Pitch 0,50mm, IPC Medium Density)
footprint 100-LQFP-E14000-D14000-A1600-H16000-B260-e500-OVERLAY-E17400-D17400 (TSQFP, 100-Leads, Body 14,00x14,00mm, Pitch 0,50mm, IPC Medium Density)
pins: 1 PE2/TRACECK/FSMC_A23, 2 PE3/TRACED0/FSMC_A19, 3 PE4/TRACED1/FSMC_A20, 4 PE5/TRACED2/FSMC_A21, 5 PE6/TRACED3/FSMC_A22, 6 VBAT, 7 PC13/TAMPER-RTC, 8 PC14/OSC32_IN, 9 PC15/OSC32_OUT, 10 VSS_5, 11 VDD_5, 12 OSC_IN, 13 OSC_OUT, 14 NRST, 15 PC0/ADC123_IN10, 16 PC1/ADC123_IN11, 17 PC2/ADC123_IN12, 18 PC3/ADC123_IN13, 19 VSSA, 20 VREF-, 21 VREF+, 22 VDDA, 23 PA0/WKUP/USART2_CTS/ADC123_IN0/TIM2_CH1_ETR/TIM5_CH1/TIM8_ETR, 24 PA1/USART2_RTS/ADC123_IN1/TIM5_CH2/TIM2_CH2, 25 PA2/USART2_TX/TIM5_CH3/ADC123_IN2/TIM9_CH1/TIM2_CH3, 26 PA3/USART2_RX/TIM5_CH4/ADC123_IN3/TIM2_CH4/TIM9_CH2, 27 VSS_4, 28 VDD_4, 29 PA4/SPI1_NSS/USART2_CK/DAC_OUT1/ADC12_IN4, 30 PA5/SPI1_SCK/DAC_OUT2/ADC12_IN5, 31 PA6/SPI1_MISO/TIM8_BKIN/ADC12_IN6/TIM3_CH1/TIM13_CH1, 32 PA7/SPI1_MOSI/TIM8_CH1N/ADC12_IN7/TIM3_CH2/TIM14_CH1, 33 PC4/ADC12_IN14, 34 PC5/ADC12_IN15, 35 PB0/ADC12_IN8/TIM3_CH3/TIM8_CH2N, 36 PB1/ADC12_IN9/TIM3_CH4/TIM8_CH3N, 37 PB2/BOOT1, 38 PE7/FSMC_D4, 39 PE8/FSMC_D5, 40 PE9/FSMC_D6, 41 PE10/FSMC_D7, 42 PE11/FSMC_D8, 43 PE12/FSMC_D9, 44 PE13/FSMC_D10, 45 PE14/FSMC_D11, 46 PE15/FSMC_D12, 47 PB10/I2C2_SCL/USART3_TX, 48 PB11/I2C2_SDA/USART3_RX, 49 VSS_1, 50 VDD_1, 51 PB12/SPI2_NSS/I2S2_WS/I2C2_SMBA/USART3_CK/TIM1_BKIN, 52 PB13/SPI2_SCK/I2S2_CK/USART3_CTS/TIM1_CH1N, 53 PB14/SPI2_MISO/TIM1_CH2N/USART3_RTS/TIM12_CH1, 54 PB15/SPI2_MOSI/I2S2_SD/TIM1_CH3N/TIM12_CH2, 55 PD8/FSMC_D13, 56 PD9/FSMC_D14, 57 PD10/FSMC_D15, 58 PD11/FSMC_A16, 59 PD12/FSMC_A17, 60 PD13/FSMC_A18, 61 PD14/FSMC_D0, 62 PD15/FSMC_D1, 63 PC6/I2S2_MCK/TIM8_CH1/SDIO_D6, 64 PC7/I2S3_MCK/TIM8_CH2/SDIO_D7, 65 PC8/TIM8_CH3/SDIO_D0, 66 PC9/TIM8_CH4/SDIO_D1, 67 PA8/USART1_CK/TIM1_CH1/MCO, 68 PA9/USART1_TX/TIM1_CH2, 69 PA10/USART1_RX/TIM1_CH3, 70 PA11/USART1_CTS/USB_DM/CAN_RX/TIM1_CH4, 71 PA12/USART1_RTS/USB_DP/CAN_TX/TIM1_ETR, 72 PA13/JTMS-SWDIO, 74 VSS_2, 75 VDD_2, 76 PA14/JTCK-SWCLK, 77 PA15/JTDI/SPI3_NSS/I2S3_WS, 78 PC10/UART4_TX/SDIO_D2, 79 PC11/UART4_RX/SDIO_D3, 80 PC12/UART5_TX/SDIO_CK, 81 PD0/FSMC_D2, 82 PD1/FSMC_D3, 83 PD2/TIM3_ETR/UART5_RX/SDIO_CMD, 84 PD3/FSMC_CLK, 85 PD4/FSMC_NOE, 86 PD5/FSMC_NWE, 87 PD6/FSMC_NWAIT, 88 PD7/FSMC_NE1/FSMC_NCE2, 89 PB3/JTDO/SPI3_SCK/I2S3_CK, 90 PB4/NJTRST/SPI3_MISO, 91 PB5/I2C1_SMBA/SPI3_MOSI/I2S3_SD, 92 PB6/I2C1_SCL/TIM4_CH1, 93 PB7/I2C1_SDA/FSMC_NADV/TIM4_CH2, 94 BOOT0, 95 PB8/TIM4_CH3/SDIO_D4/TIM10_CH1, 96 PB9/TIM4_CH4/SDIO_D5/TIM11_CH1, 97 PE0/TIM4_ETR/FSMC_NBL0, 98 PE1/FSMC_NBL1, 99 VSS_3, 100 VDD_3

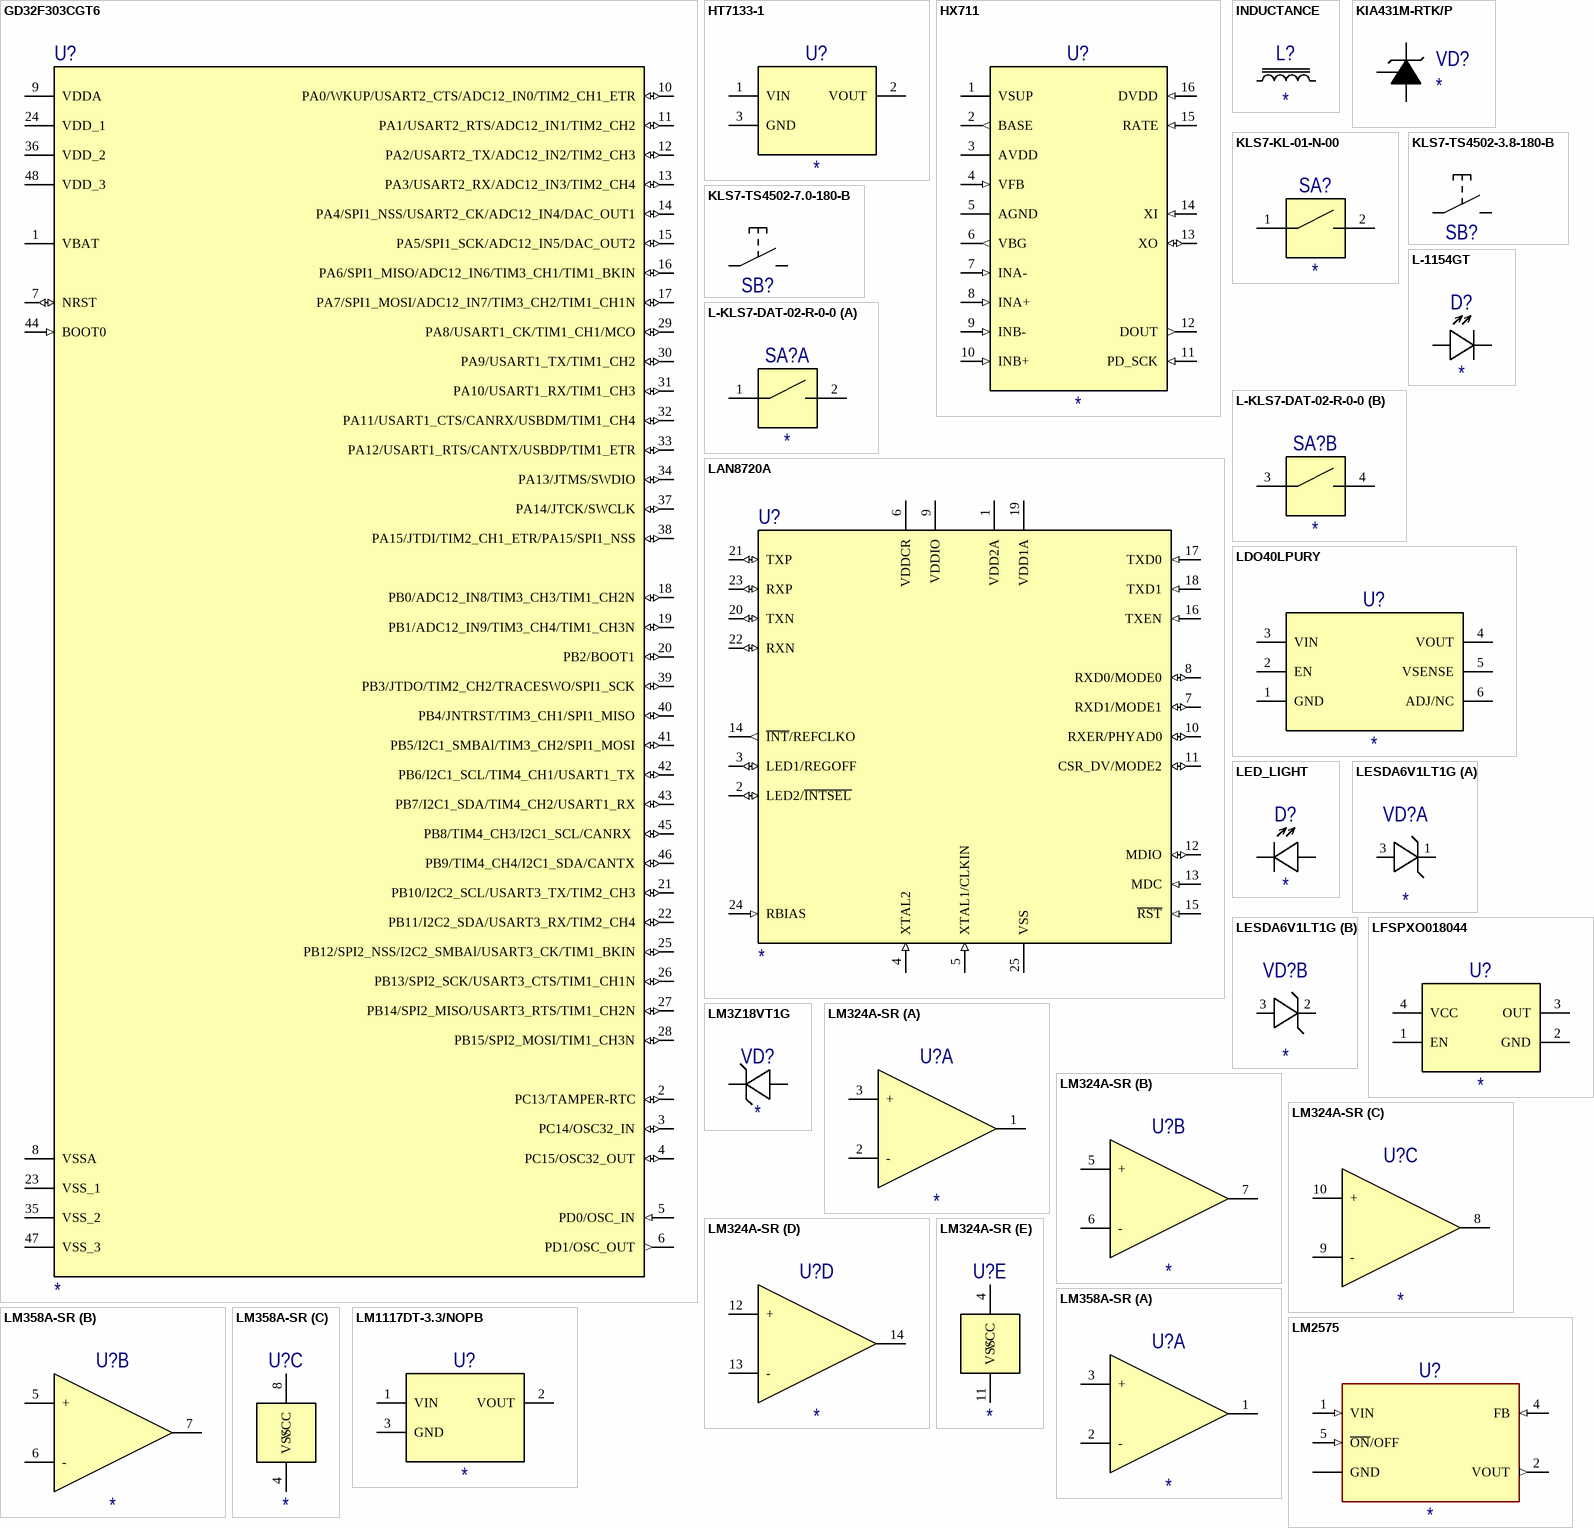
[diagram p5: symbols GD32F303CGT6 to LM2575]

## GD32F303CGT6
designator U?
Medium-density performance line Arm®-based 32-bit MCU with 64 or 128 KB Flash, USB, CAN, 7 timers, 2 ADCs, 9 com. interfaces
footprint 48-LQFP (TSQFP, 48-Leads, Body 7,00x7,00mm, Pitch 0,50mm, IPC Medium Density)
pins: 1 VBAT (power), 2 PC13/TAMPER-RTC (io), 3 PC14/OSC32_IN (io), 4 PC15/OSC32_OUT (io), 5 PD0/OSC_IN (in), 6 PD1/OSC_OUT (out), 7 NRST (io), 8 VSSA (power), 9 VDDA (power), 10 PA0/WKUP/USART2_CTS/ADC12_IN0/TIM2_CH1_ETR (io), 11 PA1/USART2_RTS/ADC12_IN1/TIM2_CH2 (io), 12 PA2/USART2_TX/ADC12_IN2/TIM2_CH3 (io), 13 PA3/USART2_RX/ADC12_IN3/TIM2_CH4 (io), 14 PA4/SPI1_NSS/USART2_CK/ADC12_IN4/DAC_OUT1 (io), 15 PA5/SPI1_SCK/ADC12_IN5/DAC_OUT2 (io), 16 PA6/SPI1_MISO/ADC12_IN6/TIM3_CH1/TIM1_BKIN (io), 17 PA7/SPI1_MOSI/ADC12_IN7/TIM3_CH2/TIM1_CH1N (io), 18 PB0/ADC12_IN8/TIM3_CH3/TIM1_CH2N (io), 19 PB1/ADC12_IN9/TIM3_CH4/TIM1_CH3N (io), 20 PB2/BOOT1 (io), 21 PB10/I2C2_SCL/USART3_TX/TIM2_CH3 (io), 22 PB11/I2C2_SDA/USART3_RX/TIM2_CH4 (io), 23 VSS_1 (power), 24 VDD_1 (power), 25 PB12/SPI2_NSS/I2C2_SMBAl/USART3_CK/TIM1_BKIN (io), 26 PB13/SPI2_SCK/USART3_CTS/TIM1_CH1N (io), 27 PB14/SPI2_MISO/USART3_RTS/TIM1_CH2N (io), 28 PB15/SPI2_MOSI/TIM1_CH3N (io), 29 PA8/USART1_CK/TIM1_CH1/MCO (io), 30 PA9/USART1_TX/TIM1_CH2 (io), 31 PA10/USART1_RX/TIM1_CH3 (io), 32 PA11/USART1_CTS/CANRX/USBDM/TIM1_CH4 (io), 33 PA12/USART1_RTS/CANTX/USBDP/TIM1_ETR (io), 34 PA13/JTMS/SWDIO (io), 35 VSS_2 (power), 36 VDD_2 (power), 37 PA14/JTCK/SWCLK (io), 38 PA15/JTDI/TIM2_CH1_ETR/PA15/SPI1_NSS (io), 39 PB3/JTDO/TIM2_CH2/TRACESWO/SPI1_SCK (io), 40 PB4/JNTRST/TIM3_CH1/SPI1_MISO (io), 41 PB5/I2C1_SMBAl/TIM3_CH2/SPI1_MOSI (io), 42 PB6/I2C1_SCL/TIM4_CH1/USART1_TX (io), 43 PB7/I2C1_SDA/TIM4_CH2/USART1_RX (io), 44 BOOT0 (in), 45 PB8/TIM4_CH3/I2C1_SCL/CANRX  (io), 46 PB9/TIM4_CH4/I2C1_SDA/CANTX (io), 47 VSS_3 (power), 48 VDD_3 (power)

## HT7133-1
designator U?
footprint 3-SOT23 (SOT23, 3-Leads, Body 2,90x2,37mm, Pitch 0,95mm, IPC Medium Density); pin to pad 1>3 3>1
footprint 3-SOT89; pin to pad 1>2 2>3 3>1
pins: 1 VIN (power), 2 VOUT (power), 3 GND (power)

## HX711
designator U?
footprint 16-SOP-H1.6 (TSOP, 16-Leads, Body 9,90x3,90mm, Pitch 1,27mm, IPC Medium Density)
pins: 1 VSUP, 2 BASE (out), 3 AVDD, 4 VFB (in), 5 AGND, 6 VBG (out), 7 INA- (in), 8 INA+ (in), 9 INB- (in), 10 INB+ (in), 11 PD_SCK (in), 12 DOUT (out), 13 XO (io), 14 XI (in), 15 RATE (in), 16 DVDD (in)

## INDUCTANCE
designator L?
footprint IND1206
footprint 2-INDUCTOR-E6600-D6600-A3000-B3000
footprint IND0805 (Chip Capacitor, 2-Leads, Body 2,00x1,25mm, IPC Medium Density)
pins: 1, 2

## KIA431M-RTK/P
designator VD?
footprint 3-SOT23 (SOT23, 3-Leads, Body 2,90x2,37mm, Pitch 0,95mm, IPC Medium Density); pin to pad 1>3 2>1 3>2
pins: 1 A, 2 K, 3 R

## KLS7-KL-01-N-00
designator SA?
Manufacturer: NINGBO KLS ELECTRONIC CO.LTD; ComponentLink1Description: Datasheet; ComponentLink1URL: http://cnkls.com/admin/product_upload/20160722174438KLS7-KL.pdf; ComponentLink2Description: Site; ComponentLink2URL: http://cnkls.com
footprint KLS7-KL-01 (End-stackable SMT Type DIP Switch)
pins: 1, 2

## KLS7-TS4502-3.8-180-B
designator SB?  (value not drawn)
4.5x4.5x3.8 Tact Switch; Manufacturer: NINGBO KLS ELECTRONIC CO.LTD; ComponentLink1Description: Datasheet; ComponentLink1URL: http://cnkls.com/admin/product_upload/20120515131100KLS7-TS4502.pdf; ComponentLink2Description: Site; ComponentLink2URL: http://cnkls.com
footprint KLS7-TS4502-3.8 (4.5x4.5 Tact Switch); pin to pad 1>1+2 2>3+4
pins: 1, 2

## KLS7-TS4502-7.0-180-B
designator SB?  (value not drawn)
4.5x4.5x7.0 Tact Switch; Manufacturer: NINGBO KLS ELECTRONIC CO.LTD; ComponentLink1Description: Datasheet; ComponentLink1URL: http://cnkls.com/admin/product_upload/20120515131100KLS7-TS4502.pdf; ComponentLink2Description: Site; ComponentLink2URL: http://cnkls.com
footprint KLS7-TS4502-7.0 (4.5x4.5 Tact Switch); pin to pad 1>1+2 2>3+4
footprint KLS7-TS4502-7.0 - OVERLAY (4.5x4.5 Tact Switch)
pins: 1, 2

## L-1154GT
designator D?
footprint LED3MM-GREEN-H3
footprint LED3MM-GREEN-H14
pins: 1, 2

## L-KLS7-DAT-02-R-0-0
designator SA?
footprint L-KLS7-DAT-02-R-0-0 (DIP-Switch 2 switches)
part A pins: 1, 2
part B pins: 3, 4

## LAN8720A
designator U?
Small Footprint RMII 10/100 Ethernet Transceiver with HP Auto-MDIX Support
footprint 24-QFN (QFN, 24-Leads, Body 4,00x4,00mm, Pitch 0,50mm, Thermal Pad 2,50x2,50mm, IPC Medium Density)
pins: 1 VDD2A (power), 2 LED2/~{INTSEL} (io), 3 LED1/REGOFF (io), 4 XTAL2 (in), 5 XTAL1/CLKIN (in), 6 VDDCR (power), 7 RXD1/MODE1 (io), 8 RXD0/MODE0 (io), 9 VDDIO (power), 10 RXER/PHYAD0 (io), 11 CSR_DV/MODE2 (io), 12 MDIO (io), 13 MDC (in), 14 ~{INT}/REFCLKO (out), 15 ~{RST} (in), 16 TXEN (in), 17 TXD0 (in), 18 TXD1 (in), 19 VDD1A (power), 20 TXN (io), 21 TXP (io), 22 RXN (io), 23 RXP (io), 24 RBIAS (in), 25 VSS (power)

## LDO40LPURY
designator U?
footprint 6-DFN-H0.9-TP; pin to pad 1>1+TP
pins: 1 GND, 2 EN, 3 VIN, 4 VOUT, 5 VSENSE, 6 ADJ/NC

## LED_LIGHT
designator D?
footprint 2-LED-E2000-D7000-A800
pins: 1, 2

## LESDA6V1LT1G
designator VD?
footprint 3-SOT23 (SOT23, 3-Leads, Body 2,90x2,37mm, Pitch 0,95mm, IPC Medium Density)
part A pins: 1, 3
part B pins: 2, 3

## LFSPXO018044
designator U?
footprint OSC7050
pins: 1 EN, 2 GND, 3 OUT, 4 VCC

## LM3Z18VT1G
designator VD?
Zener Diod; Manufacturer: LESHAN RADIO COMPANY, LTD
footprint SOD-323G (Small Outline Diode)
pins: 1, 2

## LM324A-SR
designator U?
The LM321A/358A/324A series amplifiers are newest high supply voltage amplifiers with low offset, low power and stable frequency response. They incorporate 3PEAK’s proprietary and patented design techniques to achieve very good AC performance with 0.9MHz bandwidth, 0.5V/μs slew rate and maximum 3mV offset while drawing only 100μA of quiescent current per amplifier. The input common-mode voltage range extends to V–, and the outputs swing rail-to-rail. The LM321A/358A/324A family can be used as plug-in / replacements for many commercially available op-amps to reduce power and improve input/output range and performance. The combination of features makes the LM321A/358A/324A ideal choices for power module, industrial control, motor control and audio application.; Manufacturer: 3PEAK INCORPORATED
footprint 14-SOIC-E3900-D8700-A1750-H6000-B400-e1270
part A pins: 1, 2 -, 3 +
part B pins: 5 +, 6 -, 7
part C pins: 8, 9 -, 10 +
part D pins: 12 +, 13 -, 14
part E pins: 4 VCC, 11 VSS

## LM358A-SR
designator U?
The LM321A/358A/324A series amplifiers are newest high supply voltage amplifiers with low offset, low power and stable frequency response. They incorporate 3PEAK’s proprietary and patented design techniques to achieve very good AC performance with 0.9MHz bandwidth, 0.5V/μs slew rate and maximum 3mV offset while drawing only 100μA of quiescent current per amplifier. The input common-mode voltage range extends to V–, and the outputs swing rail-to-rail. The LM321A/358A/324A family can be used as plug-in / replacements for many commercially available op-amps to reduce power and improve input/output range and performance. The combination of features makes the LM321A/358A/324A ideal choices for power module, industrial control, motor control and audio application.; Manufacturer: 3PEAK INCORPORATED
footprint 8-SOIC (SOIC, 8-Leads, Body 4,91x3,90mm, Pitch 1,27mm, IPC Medium Density)
footprint 8-SOIC - OVERLAY (SOIC, 8-Leads, Body 4,91x3,90mm, Pitch 1,27mm, IPC Medium Density)
part A pins: 1, 2 -, 3 +
part B pins: 5 +, 6 -, 7
part C pins: 4 VSS, 8 VCC

## LM1117DT-3.3/NOPB
designator U?
footprint SOT223 (SOT223, 4-Leads, Body 6,50x7,00mm (avg), Pitch 2,30mm, IPC Medium Density); pin to pad 1>3 2>2+4 3>1
pins: 1 VIN (power), 2 VOUT (power), 3 GND (power)

## LM2575
designator U?
Buck Switching Regulator IC Positive Fixed 5V 1 Output 1A TO-263-6, DÂ²Pak _5 Leads + Tab_, TO-263BA; Manufacturer: STMicroelectronics; MP: LM2576-5.0WU; MF: Microchip; Value: *; SnapEDA_Link: https://www.snapeda.com/parts/LM2576-5.0WU/Microchip/view-part/104848/?ref=snap; Availability: Unavailable; Package: TO-263-5 Micrel; Price: None
footprint DPAK6P; pin to pad 3,6>3+6
pins: 1 VIN (in), 2 VOUT (out), 3,6 GND (power), 4 FB (in), 5 ~{ON}/OFF (in)

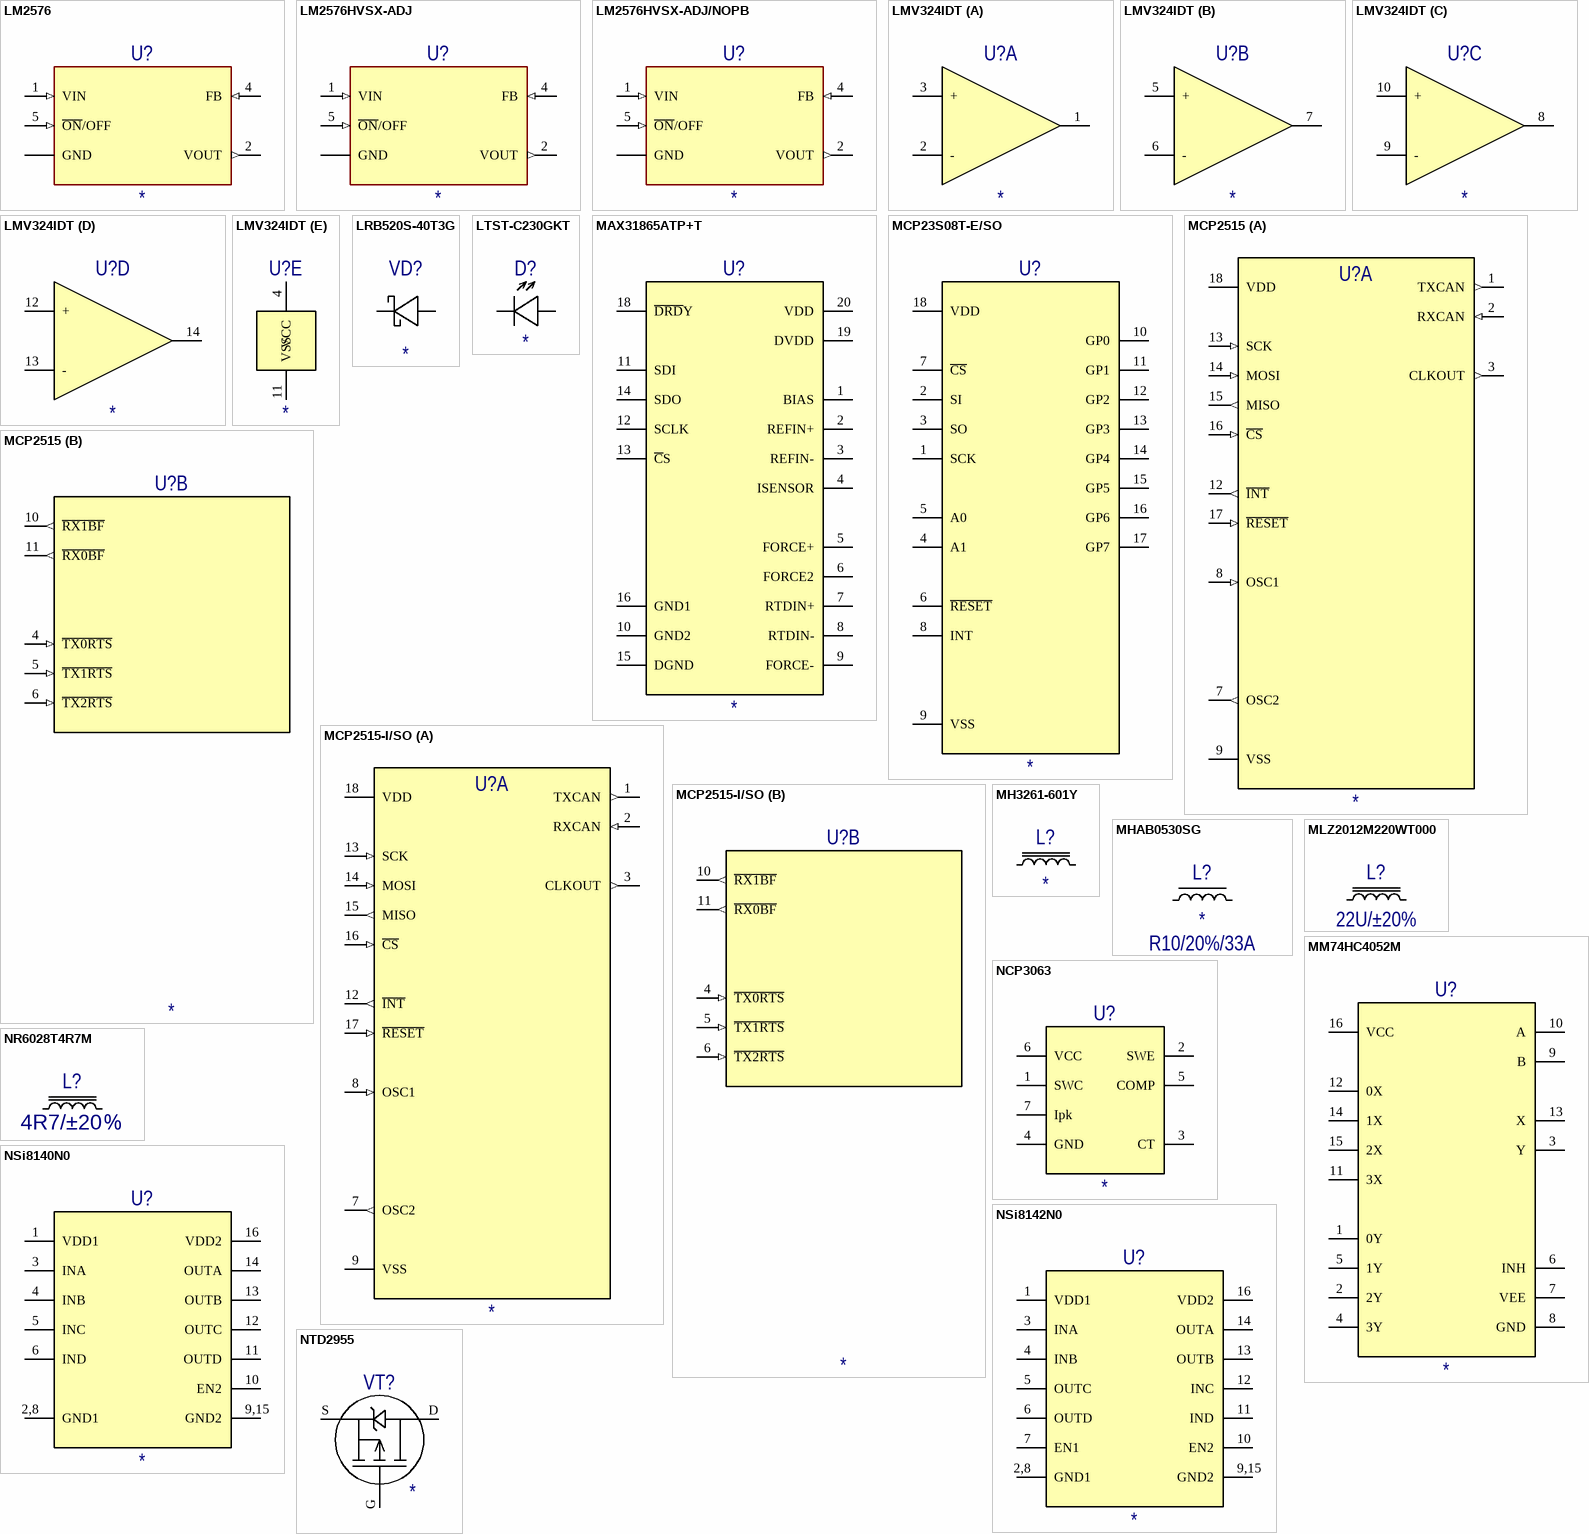
[diagram p6: symbols LM2576 to NTD2955]

## LM2576
designator U?
Buck Switching Regulator IC Positive Fixed 5V 1 Output 3A TO-263-6, DÂ²Pak _5 Leads + Tab_, TO-263BA; Manufacturer: STMicroelectronics; MP: LM2576-5.0WU; MF: Microchip; Value: *; SnapEDA_Link: https://www.snapeda.com/parts/LM2576-5.0WU/Microchip/view-part/104848/?ref=snap; Availability: Unavailable; Package: TO-263-5 Micrel; Price: None
footprint DPAK6P; pin to pad 3,6>3+6
pins: 1 VIN (in), 2 VOUT (out), 3,6 GND (power), 4 FB (in), 5 ~{ON}/OFF (in)

## LM2576HVSX-ADJ
designator U?
Buck Switching Regulator IC Positive Fixed 5V 1 Output 3A TO-263-6, DÂ²Pak _5 Leads + Tab_, TO-263BA; MP: LM2576-5.0WU; MF: Microchip; Value: *; SnapEDA_Link: https://www.snapeda.com/parts/LM2576-5.0WU/Microchip/view-part/104848/?ref=snap; Availability: Unavailable; Package: TO-263-5 Micrel; Price: None
footprint DPAK6P; pin to pad 3,6>3+6
pins: 1 VIN (in), 2 VOUT (out), 3,6 GND (power), 4 FB (in), 5 ~{ON}/OFF (in)

## LM2576HVSX-ADJ/NOPB
designator U?
Buck Switching Regulator IC Positive Fixed 5V 1 Output 3A TO-263-6, DÂ²Pak _5 Leads + Tab_, TO-263BA; MP: LM2576-5.0WU; MF: Microchip; Value: *; SnapEDA_Link: https://www.snapeda.com/parts/LM2576-5.0WU/Microchip/view-part/104848/?ref=snap; Availability: Unavailable; Package: TO-263-5 Micrel; Price: None
footprint DPAK6P; pin to pad 3,6>3+6
pins: 1 VIN (in), 2 VOUT (out), 3,6 GND (power), 4 FB (in), 5 ~{ON}/OFF (in)

## LMV324IDT
designator U?
Low cost, low power, input/output rail-to-rail operational / amplifiers; Manufacturer: STMicroelectronics
footprint 14-SOIC-E3900-D8700-A1750-H6000-B400-e1270
part A pins: 1, 2 -, 3 +
part B pins: 5 +, 6 -, 7
part C pins: 8, 9 -, 10 +
part D pins: 12 +, 13 -, 14
part E pins: 4 VCC, 11 VSS

## LRB520S-40T3G
designator VD?
SCHOTTKY BARRIER DIODE; Manufacturer: LESHAN RADIO COMPANY, LTD
footprint SOD-523F (Small Outline Diode FLAT NARROW LEADS)
footprint SOD-523F-OVERLAY (Small Outline Diode FLAT NARROW LEADS)
pins: 1, 2

## LTST-C230GKT
designator D?
Reverse mount Chip LED; Manufacturer: LITE-ON ELECTRONICS, INC.
footprint LTST-C230GKT
footprint LTST-C230GKT(Fliped)
pins: 1, 2

## MAX31865ATP+T
designator U?
footprint 20-TQFN-EP-E5000-D5000-A800-B300-e650 (Thin QFN 5x5x0.75mm 20 leads); pin to pad 16>16+EP
pins: 1 BIAS, 2 REFIN+, 3 REFIN-, 4 ISENSOR, 5 FORCE+, 6 FORCE2, 7 RTDIN+, 8 RTDIN-, 9 FORCE-, 10 GND2, 11 SDI, 12 SCLK, 13 ~{C}S, 14 SDO, 15 DGND, 16 GND1, 18 ~{DRD}Y, 19 DVDD, 20 VDD

## MCP23S08T-E/SO
designator U?
8-Bit I/O Expander with Serial Interface
footprint 18-SOIC-E7500-D11600-A2650-H10300-B700-e1270 (SOIC, 18-Leads, Body 11,60x7,50mm, Pitch 1,27mm, IPC Medium Density)
pins: 1 SCK, 2 SI, 3 SO, 4 A1, 5 A0, 6 ~{RESET}, 7 ~{CS}, 8 INT, 9 VSS, 10 GP0, 11 GP1, 12 GP2, 13 GP3, 14 GP4, 15 GP5, 16 GP6, 17 GP7, 18 VDD

## MCP2515
designator U?
Microchip Technology’s MCP2515 is a stand-alone Controller Area Network (CAN) controller that implements the CAN specification, Version 2.0B. It is capable of transmitting and receiving both standard and extended data and remote frames. The MCP2515 has two acceptance masks and six acceptance filters that are used to filter out unwanted messages, thereby reducing the host MCU’s overhead. The MCP2515 interfaces with microcontrollers (MCUs) via an industry standard Serial Peripheral Interface (SPI).
footprint 18-SOIC-B75 (SOIC, 18-Leads, Body 11,60x7,50mm, Pitch 1,27mm, IPC Medium Density)
part A pins: 1 TXCAN (out), 2 RXCAN (in), 3 CLKOUT (out), 7 OSC2 (out), 8 OSC1 (in), 9 VSS (power), 12 ~{INT} (out), 13 SCK (in), 14 MOSI (in), 15 MISO (out), 16 ~{CS} (in), 17 ~{RESET} (in), 18 VDD (power)
part B pins: 4 ~{TX0RTS} (in), 5 ~{TX1RTS} (in), 6 ~{TX2RTS} (in), 10 ~{RX1BF} (out), 11 ~{RX0BF} (out)

## MCP2515-I/SO
designator U?
Microchip Technology’s MCP2515 is a stand-alone Controller Area Network (CAN) controller that implements the CAN specification, Version 2.0B. It is capable of transmitting and receiving both standard and extended data and remote frames. The MCP2515 has two acceptance masks and six acceptance filters that are used to filter out unwanted messages, thereby reducing the host MCU’s overhead. The MCP2515 interfaces with microcontrollers (MCUs) via an industry standard Serial Peripheral Interface (SPI).
footprint 18-SOIC-B75 (SOIC, 18-Leads, Body 11,60x7,50mm, Pitch 1,27mm, IPC Medium Density)
part A pins: 1 TXCAN (out), 2 RXCAN (in), 3 CLKOUT (out), 7 OSC2 (out), 8 OSC1 (in), 9 VSS (power), 12 ~{INT} (out), 13 SCK (in), 14 MOSI (in), 15 MISO (out), 16 ~{CS} (in), 17 ~{RESET} (in), 18 VDD (power)
part B pins: 4 ~{TX0RTS} (in), 5 ~{TX1RTS} (in), 6 ~{TX2RTS} (in), 10 ~{RX1BF} (out), 11 ~{RX0BF} (out)

## MFMC_LOGO-H-ONLY_NAME-X16000-Y2800
designator ?  (no BOM)
footprint MFMC_LOGO-H-ONLY_NAME-X16000-Y2800 (Mfmc Logo)

## MH3261-601Y
designator L?
MH Series High Current Chip Ferrite Beads
footprint IND1206
pins: 1, 2

## MHAB0530SG
designator L?  value R10/20%/33A
Inductance: R10; Tolerance: 20%; Resistance: R3; Current: 33A
footprint IND0503
pins: 1, 2

## MLZ2012M220WT000
designator L?  value 22U/±20%  (hidden comment: *)
Inductors for decoupling circuits; Manufacturer: TDK Corporation
footprint IND0805 (Chip Capacitor, 2-Leads, Body 2,00x1,25mm, IPC Medium Density)
footprint IND0805 - OVERLAY (Chip Capacitor, 2-Leads, Body 2,00x1,25mm, IPC Medium Density)
pins: 1, 2

## MM74HC4052M
designator U?
footprint 16-SOP-H1.6 (TSOP, 16-Leads, Body 9,90x3,90mm, Pitch 1,27mm, IPC Medium Density)
pins: 1 0Y, 2 2Y, 3 Y, 4 3Y, 5 1Y, 6 INH, 7 VEE, 8 GND, 9 B, 10 A, 11 3X, 12 0X, 13 X, 14 1X, 15 2X, 16 VCC

## NCP3063
designator U?
footprint 8-SOIC (SOIC, 8-Leads, Body 4,91x3,90mm, Pitch 1,27mm, IPC Medium Density)
pins: 1 SWC, 2 SWE, 3 CT, 4 GND, 5 COMP, 6 VCC, 7 Ipk

## NR6028T4R7M
designator L?  value 4R7/±20％  (hidden comment: *)
SMD POWER INDUCTORS; Manufacturer: TAIYO YUDEN
footprint NR(S)6028-OVERLAY (TAIYO YUDEN SMD POWER INDUCTORS 6x6x2.8mm)
footprint NR(S)6028 (TAIYO YUDEN SMD POWER INDUCTORS 6x6x2.8mm)
pins: 1, 2

## NSi8140N0
designator U?
The NSi814x devices are high reliability quad-channel digital isolators.
footprint 16-SOIC-E4000-D10000-A1750-H6000-B600-e1270; pin to pad 2,8>2+8 2, 8>2+8 9,15>9+15
pins: 1 VDD1, 2,8 GND1, 3 INA, 4 INB, 5 INC, 6 IND, 9,15 GND2, 10 EN2, 11 OUTD, 12 OUTC, 13 OUTB, 14 OUTA, 16 VDD2

## NSi8142N0
designator U?
The NSi814x devices are high reliability quad-channel digital isolators.
footprint 16-SOIC-E4000-D10000-A1750-H6000-B600-e1270; pin to pad 2,8>2+8 2, 8>2+8 9,15>9+15
pins: 1 VDD1, 2,8 GND1, 3 INA, 4 INB, 5 OUTC, 6 OUTD, 7 EN1, 9,15 GND2, 10 EN2, 11 IND, 12 INC, 13 OUTB, 14 OUTA, 16 VDD2

## NTD2955
designator VT?
P-channel Power MOSFET
footprint DPAK229P991X238-3N (D-PAK, 3-Pads, Body 6,21x6,73mm (max), IPC Medium Density); pin to pad D>4 G>1 S>3
pins: D, G, S

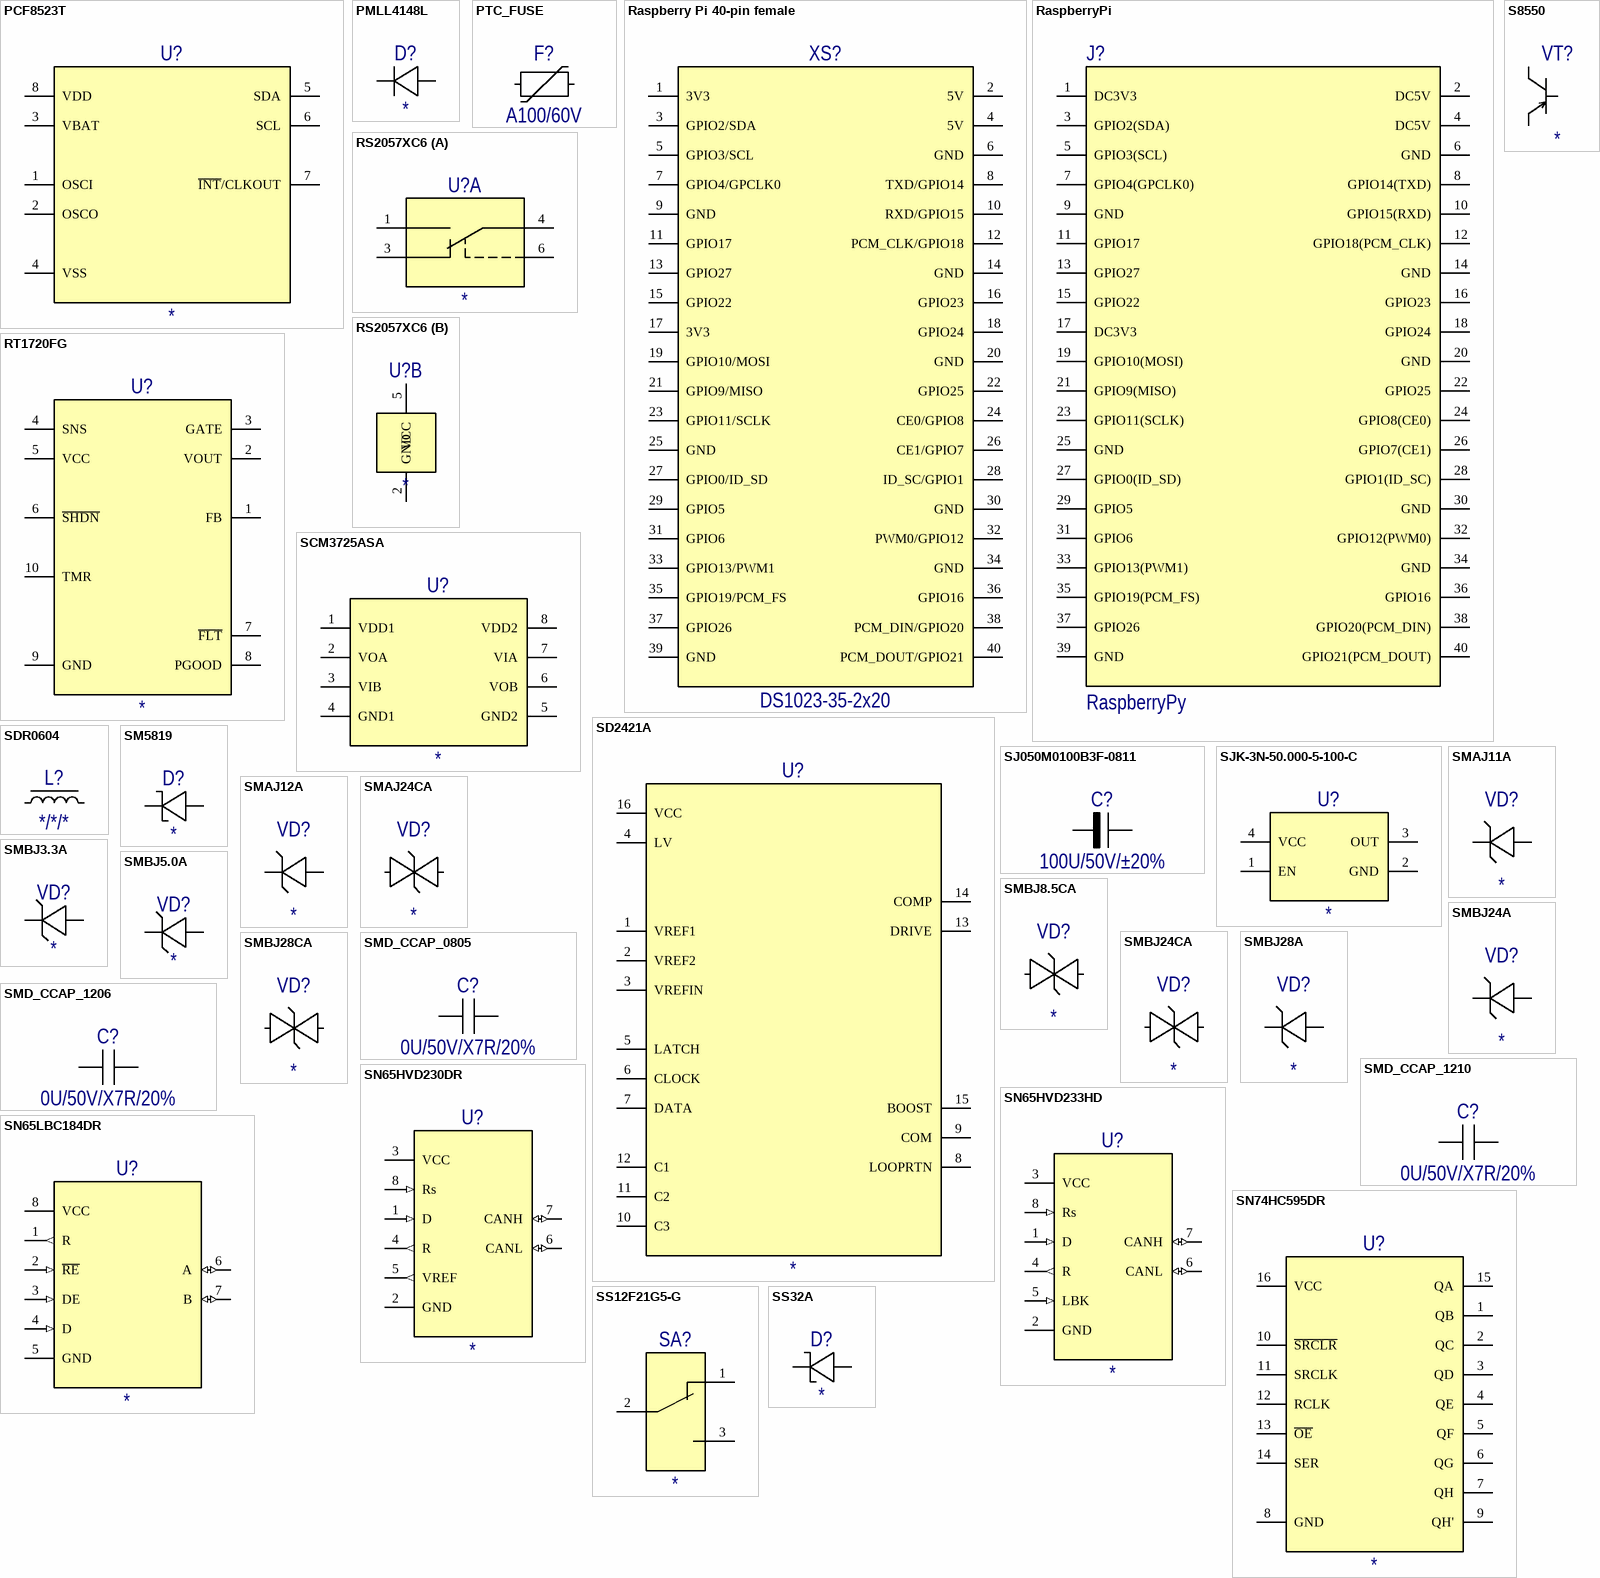
[diagram p7: symbols PCF8523T to SS32A]

## PCF8523T
designator U?
The PCF8523 is a CMOS1 Real-Time Clock (RTC) and calendar optimized for low power consumption. Data is transferred serially via the I2C-bus with a maximum data rate of 1000 kbit/s. Alarm and timer functions are available with the possibility to generate a wake-up signal on an interrupt pin. An offset register allows fine-tuning of the clock. The PCF8523 has a backup battery switch-over circuit, which detects power failures and automatically switches to the battery supply when a power failure occurs.
footprint 8-SOIC (SOIC, 8-Leads, Body 4,91x3,90mm, Pitch 1,27mm, IPC Medium Density)
pins: 1 OSCI, 2 OSCO, 3 VBAT, 4 VSS, 5 SDA, 6 SCL, 7 ~{INT}/CLKOUT, 8 VDD

## PMLL4148L
designator D?
Single high-speed switching diodes, fabricated in planar technology, and encapsulated in small hermetically sealed glass SOD80C Surface-Mounted Device (SMD) packages.
footprint DIOMELF3515N (MELF Diode, 2-Leads, Body 3,50x1,53mm, IPC Medium Density)
pins: 1, 2

## PTC_FUSE
designator F?  value A100/60V  (hidden comment: *)
Film resistor SMD 0805
footprint RES1812
pins: 1, 2

## Raspberry Pi 40-pin female
designator XS?, comment DS1023-35-2x20
System: Connector
footprint DS1023-35-2x20
pins: 1 3V3, 2 5V, 3 GPIO2/SDA, 4 5V, 5 GPIO3/SCL, 6 GND, 7 GPIO4/GPCLK0, 8 TXD/GPIO14, 9 GND, 10 RXD/GPIO15, 11 GPIO17, 12 PCM_CLK/GPIO18, 13 GPIO27, 14 GND, 15 GPIO22, 16 GPIO23, 17 3V3, 18 GPIO24, 19 GPIO10/MOSI, 20 GND, 21 GPIO9/MISO, 22 GPIO25, 23 GPIO11/SCLK, 24 CE0/GPIO8, 25 GND, 26 CE1/GPIO7, 27 GPIO0/ID_SD, 28 ID_SC/GPIO1, 29 GPIO5, 30 GND, 31 GPIO6, 32 PWM0/GPIO12, 33 GPIO13/PWM1, 34 GND, 35 GPIO19/PCM_FS, 36 GPIO16, 37 GPIO26, 38 PCM_DIN/GPIO20, 39 GND, 40 PCM_DOUT/GPIO21

## RaspberryPi
designator J?, comment RaspberryPy
footprint RaspberryPi
pins: 1 DC3V3, 2 DC5V, 3 GPIO2(SDA), 4 DC5V, 5 GPIO3(SCL), 6 GND, 7 GPIO4(GPCLK0), 8 GPIO14(TXD), 9 GND, 10 GPIO15(RXD), 11 GPIO17, 12 GPIO18(PCM_CLK), 13 GPIO27, 14 GND, 15 GPIO22, 16 GPIO23, 17 DC3V3, 18 GPIO24, 19 GPIO10(MOSI), 20 GND, 21 GPIO9(MISO), 22 GPIO25, 23 GPIO11(SCLK), 24 GPIO8(CE0), 25 GND, 26 GPIO7(CE1), 27 GPIO0(ID_SD), 28 GPIO1(ID_SC), 29 GPIO5, 30 GND, 31 GPIO6, 32 GPIO12(PWM0), 33 GPIO13(PWM1), 34 GND, 35 GPIO19(PCM_FS), 36 GPIO16, 37 GPIO26, 38 GPIO20(PCM_DIN), 39 GND, 40 GPIO21(PCM_DOUT)

## RS2057XC6
designator U?
4.5Ω Low Voltage SPDT Analog Switch
footprint 6-SOT363-E1300-D2150-A1000-H2100-B250-e650 (Surface Mount Package 6 leads height 1mm)
part A pins: 1 NO, 3 NC, 4 COM, 6 IN
part B pins: 2 GND, 5 VCC

## RT1720FG
designator U?
Hot Swap Controller with Fault Timer; Manufacturer: Richtek Technology Corporation
footprint 10-MSOP-E3000-D3000-A1100-H5000-B270-e500 (10-Lead MSOP Plastic Package)
pins: 1 FB "Voltage Regulator Feedback Input. Connect a resistive divider from output to FB to GND to set the maximum output voltage and voltage regulation set-point.", 2 VOUT "Output Voltage Connection. VOUT is the lower reference voltage for the GATE charge pump.", 3 GATE "N-MOSFET Gate Drive Output", 4 SNS "Current Sense Input. Connect a sense resistor from VCC to SNS to monitor the current through the external N-MOSFET", 5 VCC "Positive Supply Voltage Input.", 6 ~{SHDN} "Shutdown Control Input.", 7 ~{FLT} "Open-Collector Fault Output.", 8 PGOOD "Open-Collector Power Good Indicator.", 9 GND "Ground.", 10 TMR "Fault Timer Input. Connect a capacitor from TMR to GND to program the maximum time the part is allowed to remain in voltage regulation or current regulation mode. TMR capacitor with value greater than 0.47uF is recommended."

## S8550
designator VT?
footprint 3-SOT23 (SOT23, 3-Leads, Body 2,90x2,37mm, Pitch 0,95mm, IPC Medium Density)
pins: 1 B, 2 E, 3 C

## SCM3725ASA
designator U?
footprint 8-SOIC (SOIC, 8-Leads, Body 4,91x3,90mm, Pitch 1,27mm, IPC Medium Density)
pins: 1 VDD1, 2 VOA, 3 VIB, 4 GND1, 5 GND2, 6 VOB, 7 VIA, 8 VDD2

## SD2421A
designator U?
The SD2421 is a complete 4-20mA loop powered DAC which converts digital signal into current. Its large scale integration, high precision, and low cost design is specifically well suited for smart 4-20mA transmitter manufacturer in the industrial control area.
footprint 16-SOIC-E7500-D10300-A2560-H10300-B400-e1270 (SOIC, 16-Leads, Body 10,30x7,50mm, Pitch 1,27mm, IPC Medium Density)
pins: 1 VREF1, 2 VREF2, 3 VREFIN, 4 LV, 5 LATCH, 6 CLOCK, 7 DATA, 8 LOOPRTN, 9 COM, 10 C3, 11 C2, 12 C1, 13 DRIVE, 14 COMP, 15 BOOST, 16 VCC

## SDR0604
designator L?  value */*/*  (hidden comment: *)
Inductance: *; Tolerance: *; Resistance: *; Current: *
footprint IND-W58-L58-H48 (Precision Wire Wound Inductor, 2-Leads, Body 5,80x5,80mm, IPC Medium Density)
pins: 1, 2

## SJ050M0100B3F-0811
designator C?  value 100U/50V/±20%  (hidden comment: *)
Electrolitic Aluminium Capacitor Low Impedance and High Ripple Series
footprint ECAP0812(L)H6
footprint ECAP0812(S) (Miniature Aluminum Electrolytic Capacitors D-8mm, H-11mm)
pins: 1, 2

## SJK-3N-50.000-5-100-C
designator U?
footprint SJK-3N-50.000-5-100-C
pins: 1 EN, 2 GND, 3 OUT, 4 VCC

## SM5819
designator D?
footprint DIOMELF5025N (MELF Diode, 2-Leads, Body 5,00x2,50mm, IPC Medium Density)
pins: 1, 2

## SMAJ11A
designator VD?
Surface Mount Transient Voltage Suppressor Diodes; Manufacturer: Yangzhou Yangjie Electronic Technology Co., Ltd.
footprint DO-214AC
footprint DO-214AC - OVERLAY
pins: 1, 2

## SMAJ12A
designator VD?
Surface Mount Transient Voltage Suppressor Diodes; Manufacturer: Yangzhou Yangjie Electronic Technology Co., Ltd.
footprint DO-214AC
footprint DO-214AC - OVERLAY
pins: 1, 2

## SMAJ24CA
designator VD?
Surface Mount Transient Voltage Suppressor Diodes; Manufacturer: Yangzhou Yangjie Electronic Technology Co., Ltd.
footprint DO-214AC
footprint DO-214AC - OVERLAY
pins: 1, 2

## SMBJ3.3A
designator VD?
Single high-speed switching diodes, fabricated in planar technology, and encapsulated in small hermetically sealed glass SOD80C Surface-Mounted Device (SMD) packages.
footprint 2-MOLDED-E4600-D4000-A2700-H5600-B2200
pins: 1, 2

## SMBJ5.0A
designator VD?
Single high-speed switching diodes, fabricated in planar technology, and encapsulated in small hermetically sealed glass SOD80C Surface-Mounted Device (SMD) packages.
footprint 2-MOLDED-E4600-D4000-A2700-H5600-B2200
pins: 1, 2

## SMBJ8.5CA
designator VD?
Single high-speed switching diodes, fabricated in planar technology, and encapsulated in small hermetically sealed glass SOD80C Surface-Mounted Device (SMD) packages.
footprint 2-MOLDED-E4600-D4000-A2700-H5600-B2200
pins: 1, 2

## SMBJ24A
designator VD?
Single high-speed switching diodes, fabricated in planar technology, and encapsulated in small hermetically sealed glass SOD80C Surface-Mounted Device (SMD) packages.; Manufacturer: STMicroelectronics
footprint 2-MOLDED-E4600-D4000-A2700-H5600-B2200
footprint DO-214AA (Surface Mount Package)
pins: 1, 2

## SMBJ24CA
designator VD?
Single high-speed switching diodes, fabricated in planar technology, and encapsulated in small hermetically sealed glass SOD80C Surface-Mounted Device (SMD) packages.; Manufacturer: STMicroelectronics
footprint 2-MOLDED-E4600-D4000-A2700-H5600-B2200
footprint DO-214AA-Bidirectional
pins: 1, 2

## SMBJ28A
designator VD?
Single high-speed switching diodes, fabricated in planar technology, and encapsulated in small hermetically sealed glass SOD80C Surface-Mounted Device (SMD) packages.; Manufacturer: STMicroelectronics
footprint 2-MOLDED-E4600-D4000-A2700-H5600-B2200
pins: 1, 2

## SMBJ28CA
designator VD?
Single high-speed switching diodes, fabricated in planar technology, and encapsulated in small hermetically sealed glass SOD80C Surface-Mounted Device (SMD) packages.; Manufacturer: STMicroelectronics
footprint 2-MOLDED-E4600-D4000-A2700-H5600-B2200
footprint DO-214AA-Bidirectional
pins: 1, 2

## SMD_CCAP_0805
designator C?  value 0U/50V/X7R/20%  (hidden comment: *)
Ceramic Capacitor SMD 0805; Capacity: 0U; Accuracy: 20%; Dielectric: X7R; Voltage: 50V
footprint CCAP0805 (Chip Capacitor, 2-Leads, Body 2,00x1,25mm, IPC Medium Density)
pins: 1, 2

## SMD_CCAP_1206
designator C?  value 0U/50V/X7R/20%  (hidden comment: *)
Ceramic Capacitor SMD 0805; Capacity: 0U; Accuracy: 20%; Dielectric: X7R; Voltage: 50V
footprint CCAP1206 (Chip Capacitor, 2-Leads, Body 3,20x1,60mm, IPC Medium Density)
pins: 1, 2

## SMD_CCAP_1210
designator C?  value 0U/50V/X7R/20%  (hidden comment: *)
Ceramic Capacitor SMD 0805; Capacity: 0U; Accuracy: 20%; Dielectric: X7R; Voltage: 50V
footprint CCAP1210 (Chip Capacitor, 2-Leads, Body 3,20x2,50mm, IPC Medium Density)
pins: 1, 2

## SN65HVD230DR
designator U?
CAN Bus Transiver; Manufacturer: Texas Instruments Incorporated
footprint 8-SOIC (SOIC, 8-Leads, Body 4,91x3,90mm, Pitch 1,27mm, IPC Medium Density)
pins: 1 D (in), 2 GND (power), 3 VCC (power), 4 R (out), 5 VREF (out), 6 CANL (io), 7 CANH (io), 8 Rs (in)

## SN65HVD233HD
designator U?
CAN Bus Transiver
footprint 8-SOIC (SOIC, 8-Leads, Body 4,91x3,90mm, Pitch 1,27mm, IPC Medium Density)
pins: 1 D (in), 2 GND (power), 3 VCC (power), 4 R (out), 5 LBK (in), 6 CANL (io), 7 CANH (io), 8 Rs (in)

## SN65LBC184DR
designator U?
Bidirect RS485 UART Convertor
footprint 8-SOIC (SOIC, 8-Leads, Body 4,91x3,90mm, Pitch 1,27mm, IPC Medium Density)
pins: 1 R (out), 2 ~{RE} (in), 3 DE (in), 4 D (in), 5 GND (power), 6 A (io), 7 B (io), 8 VCC (power)

## SN74HC595DR
designator U?
8-Bit Shift Registers With 3-State Output Registers; Manufacturer: Texas Instruments Incorporated
footprint 16-SOP-H1.6 (TSOP, 16-Leads, Body 9,90x3,90mm, Pitch 1,27mm, IPC Medium Density)
footprint 16-SOP-H1.6 - OVERLAY (TSOP, 16-Leads, Body 9,90x3,90mm, Pitch 1,27mm, IPC Medium Density)
pins: 1 QB, 2 QC, 3 QD, 4 QE, 5 QF, 6 QG, 7 QH, 8 GND, 9 QH', 10 ~{SRCLR}, 11 SRCLK, 12 RCLK, 13 ~{OE}, 14 SER, 15 QA, 16 VCC

## SS12F21G5-G
designator SA?
footprint SS12F21G5-G
pins: 1, 2, 3

## SS32A
designator D?
Surface Mount Schottky Rectifier; Manufacturer: Yangzhou Yangjie Electronic Technology Co., Ltd.
footprint DO-214AC
footprint DO-214AC - OVERLAY
pins: 1, 2

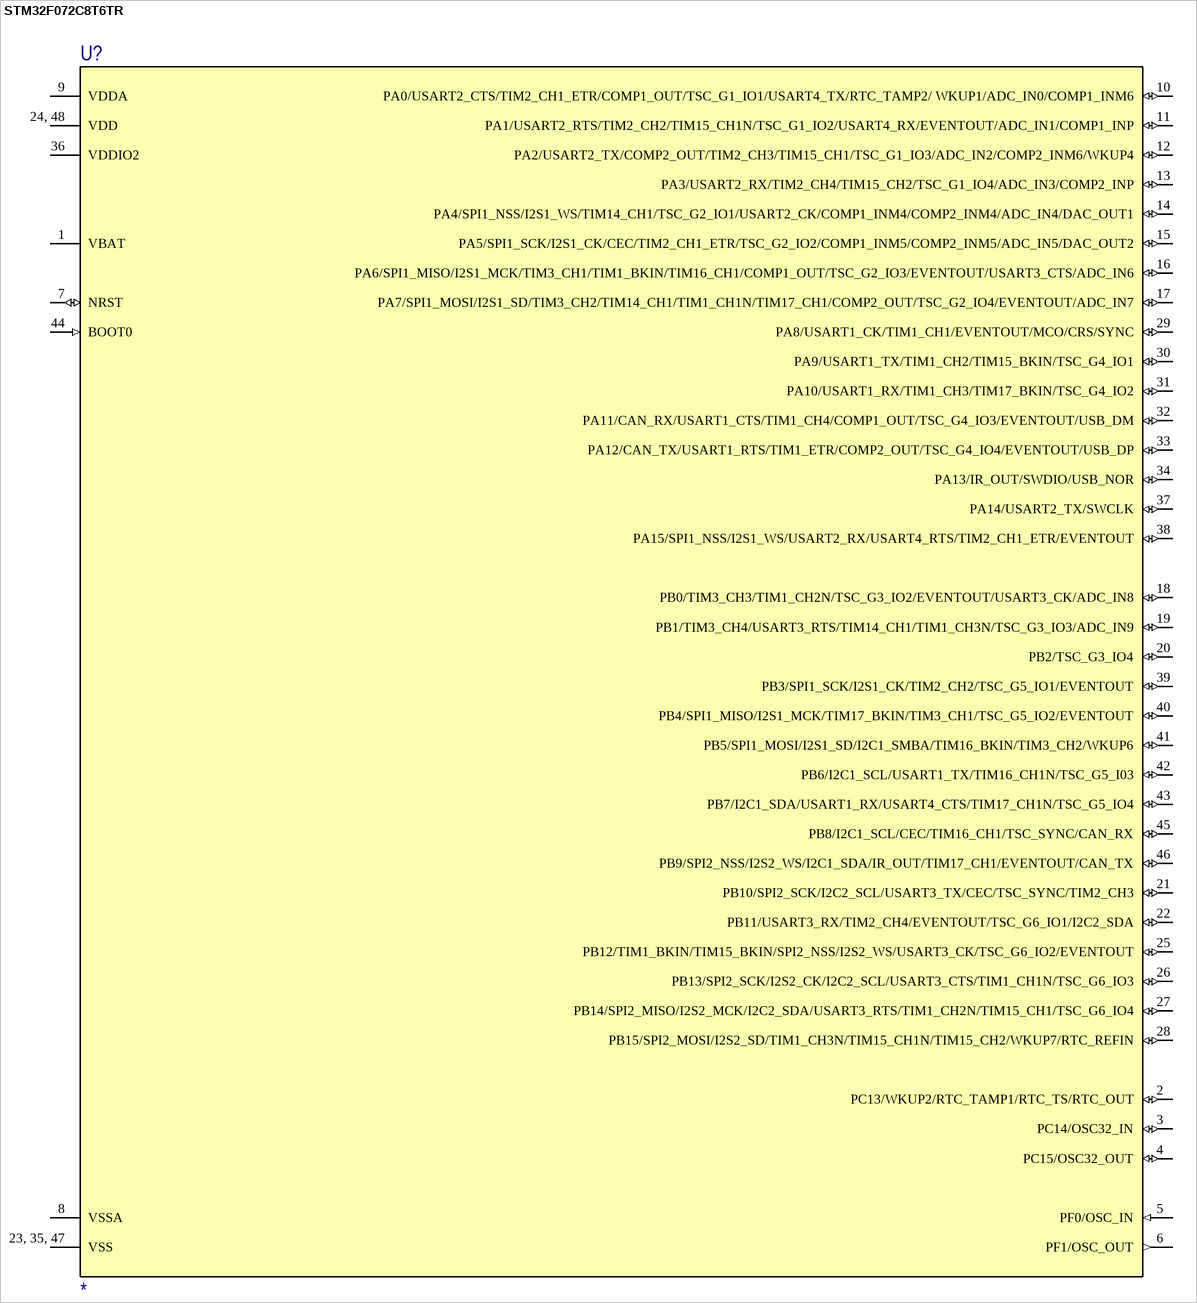
[diagram p8: symbol STM32F072C8T6TR]